# Altium integrated library Altera APEX 20KE.IntLib: 235 symbols (part 14 of 49)
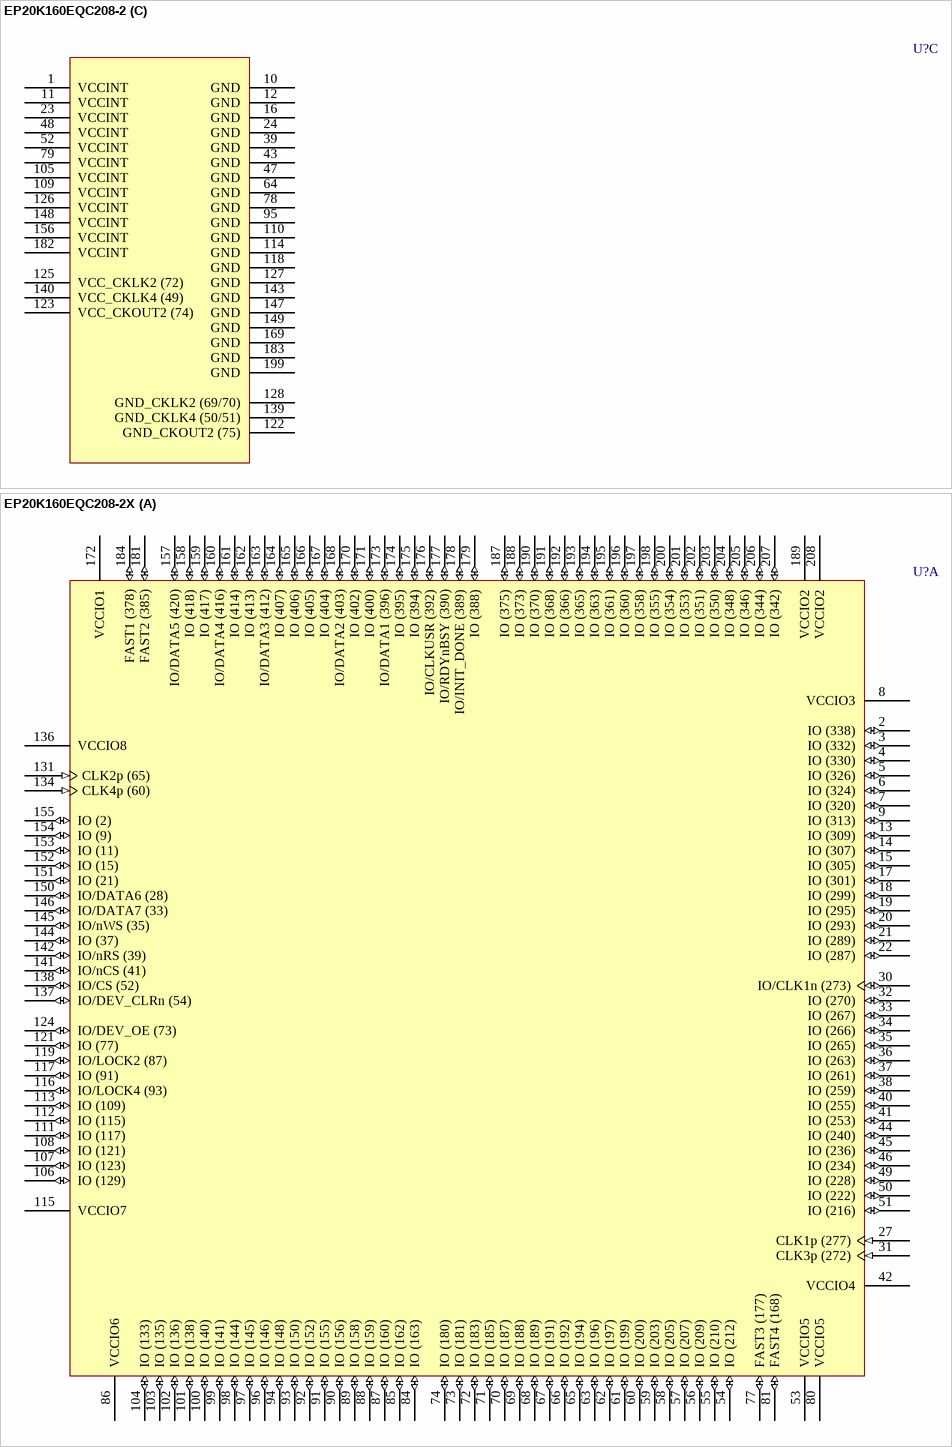
[diagram p412: symbols EP20K160EQC208-2 to EP20K160EQC208-2X]

## EP20K160EQC208-2
designator U?
APEX 20K160E PLD, 208-Pin PQFP, Commercial Grade, Speed Grade 2; Published: 17-Jul-2002; LatestRevisionDate: 13-Apr-2006; LatestRevisionNote: IPC-7351 Footprint Added.; DatasheetVersion: Mar-2004; PackageVersion: ver15.4, Dec-2008; PackageReference: PQFP208; Publisher: Altium Limited; PackageDescription: 208-Pin Plastic Quad Flat Pack (PQFP208) - Wire Bond; Code_JEDEC: MS-029-FA-1; ComponentLink1Description: Manufacturer Link; ComponentLink1URL: http://www.altera.com/products/devices/apex/apx-index.html; ComponentLink2Description: Datasheet; ComponentLink2URL: http://www.altera.com/literature/ds/apex.pdf
footprint PQFP208_N (Shrink QFP, 208-Leads, Body 28x28mm, Pitch 0.5mm, IPC Medium Density)
footprint PQFP208_L (Shrink QFP, 208-Leads, Body 28x28mm, Pitch 0.5mm, IPC High Density)
footprint PQFP208_M (Shrink QFP, 208-Leads, Body 28x28mm, Pitch 0.5mm, IPC Low Density)
3D model EP20K160E-PQFP208 (208-Pin Plastic Quad Flat Pack (PQFP208) - Wire Bond)
part A pins: 2 IO (338) (io), 3 IO (332) (io), 4 IO (330) (io), 5 IO (326) (io), 6 IO (324) (io), 7 IO (320) (io), 8 VCCIO3 (power), 9 IO (313) (io), 13 IO (309) (io), 14 IO (307) (io), 15 IO (305) (io), 17 IO (301) (io), 18 IO (299) (io), 19 IO (295) (io), 20 IO (293) (io), 21 IO (289) (io), 22 IO (287) (io), 27 CLK1p (277) (in), 30 IO/CLK1n (273) (io), 31 CLK3p (272) (in), 32 IO (270) (io), 33 IO (267) (io), 34 IO (266) (io), 35 IO (265) (io), 36 IO (263) (io), 37 IO (261) (io), 38 IO (259) (io), 40 IO (255) (io), 41 IO (253) (io), 42 VCCIO4 (power), 44 IO (240) (io), 45 IO (236) (io), 46 IO (234) (io), 49 IO (228) (io), 50 IO (222) (io), 51 IO (216) (io), 53 VCCIO5 (power), 54 IO (212) (io), 55 IO (210) (io), 56 IO (209) (io), 57 IO (207) (io), 58 IO (205) (io), 59 IO (203) (io), 60 IO (200) (io), 61 IO (199) (io), 62 IO (197) (io), 63 IO (196) (io), 65 IO (194) (io), 66 IO (192) (io), 67 IO (191) (io), 68 IO (189) (io), 69 IO (188) (io), 70 IO (187) (io), 71 IO (185) (io), 72 IO (183) (io), 73 IO (181) (io), 74 IO (180) (io), 77 FAST3 (177) (io), 80 VCCIO5 (power), 81 FAST4 (168) (io), 84 IO (163) (io), 85 IO (162) (io), 86 VCCIO6 (power), 87 IO (160) (io), 88 IO (159) (io), 89 IO (158) (io), 90 IO (156) (io), 91 IO (155) (io), 92 IO (152) (io), 93 IO (150) (io), 94 IO (148) (io), 96 IO (146) (io), 97 IO (145) (io), 98 IO (144) (io), 99 IO (141) (io), 100 IO (140) (io), 101 IO (138) (io), 102 IO (136) (io), 103 IO (135) (io), 104 IO (133) (io), 106 IO (129) (io), 107 IO (123) (io), 108 IO (121) (io), 111 IO (117) (io), 112 IO (115) (io), 113 IO (109) (io), 115 VCCIO7 (power), 116 IO/LOCK4 (93) (io), 117 IO (91) (io), 119 IO/LOCK2 (87) (io), 121 IO (77) (io), 124 IO/DEV_OE (73) (io), 131 CLK2p (65) (in), 134 CLK4p (60) (in), 136 VCCIO8 (power), 137 IO/DEV_CLRn (54) (io), 138 IO/CS (52) (io), 141 IO/nCS (41) (io), 142 IO/nRS (39) (io), 144 IO (37) (io), 145 IO/nWS (35) (io), 146 IO/DATA7 (33) (io), 150 IO/DATA6 (28) (io), 151 IO (21) (io), 152 IO (15) (io), 153 IO (11) (io), 154 IO (9) (io), 155 IO (2) (io), 157 IO/DATA5 (420) (io), 158 IO (418) (io), 159 IO (417) (io), 160 IO/DATA4 (416) (io), 161 IO (414) (io), 162 IO (413) (io), 163 IO/DATA3 (412) (io), 164 IO (407) (io), 165 IO (406) (io), 166 IO (405) (io), 167 IO (404) (io), 168 IO/DATA2 (403) (io), 170 IO (402) (io), 171 IO (400) (io), 172 VCCIO1 (power), 173 IO/DATA1 (396) (io), 174 IO (395) (io), 175 IO (394) (io), 176 IO/CLKUSR (392) (io), 177 IO/RDYnBSY (390) (io), 178 IO/INIT_DONE (389) (io), 179 IO (388) (io), 181 FAST2 (385) (io), 184 FAST1 (378) (io), 187 IO (375) (io), 188 IO (373) (io), 189 VCCIO2 (power), 190 IO (370) (io), 191 IO (368) (io), 192 IO (366) (io), 193 IO (365) (io), 194 IO (363) (io), 195 IO (361) (io), 196 IO (360) (io), 197 IO (358) (io), 198 IO (355) (io), 200 IO (354) (io), 201 IO (353) (io), 202 IO (351) (io), 203 IO (350) (io), 204 IO (348) (io), 205 IO (346) (io), 206 IO (344) (io), 207 IO (342) (io), 208 VCCIO2 (power)
part B pins: 25 MSEL0 (279) (in), 26 MSEL1 (278) (in), 28 CLKLK_ENA (276) (in), 29 nCONFIG (275) (in), 75 TMS (179) (in), 76 TCK (178) (in), 82 nSTATUS (167) (io), 83 CONF_DONE (166) (io), 120 CLKLK_OUT2p (79) (out), 129 TDI (67) (in), 130 nCE (66) (in), 132 DCLK (64) (in), 133 DATA0 (63) (in), 135 CLKLK_FB2p (58) (in), 180 TDO (386) (out), 185 nCEO (377) (out), 186 TRST (376) (in)
part C pins: 1 VCCINT (power), 10 GND (power), 11 VCCINT (power), 12 GND (power), 16 GND (power), 23 VCCINT (power), 24 GND (power), 39 GND (power), 43 GND (power), 47 GND (power), 48 VCCINT (power), 52 VCCINT (power), 64 GND (power), 78 GND (power), 79 VCCINT (power), 95 GND (power), 105 VCCINT (power), 109 VCCINT (power), 110 GND (power), 114 GND (power), 118 GND (power), 122 GND_CKOUT2 (75) (power), 123 VCC_CKOUT2 (74) (power), 125 VCC_CKLK2 (72) (power), 126 VCCINT (power), 127 GND (power), 128 GND_CKLK2 (69/70) (power), 139 GND_CKLK4 (50/51) (power), 140 VCC_CKLK4 (49) (power), 143 GND (power), 147 GND (power), 148 VCCINT (power), 149 GND (power), 156 VCCINT (power), 169 GND (power), 182 VCCINT (power), 183 GND (power), 199 GND (power)

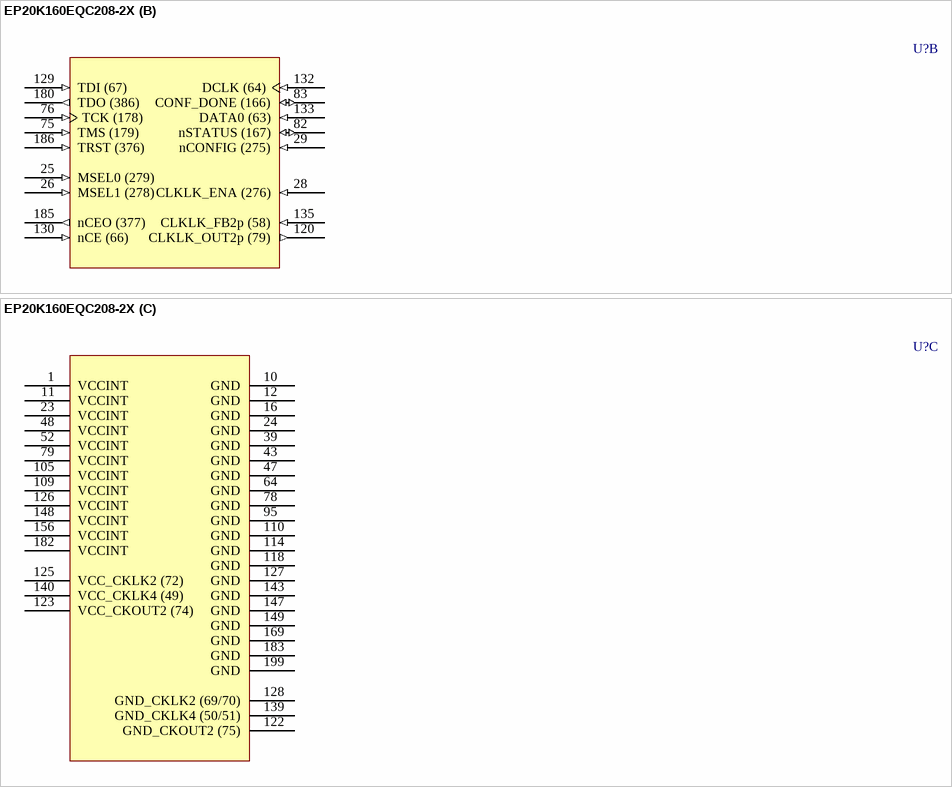
[diagram p152: symbol EP20K160EQC208-2X]

## EP20K160EQC208-2X
designator U?
APEX 20K160E PLD with PLLs and LVDS, 208-Pin PQFP, Commercial Grade, Speed Grade 2; Published: 17-Jul-2002; LatestRevisionDate: 13-Apr-2006; LatestRevisionNote: IPC-7351 Footprint Added.; DatasheetVersion: Mar-2004; PackageVersion: ver15.4, Dec-2008; PackageReference: PQFP208; Publisher: Altium Limited; PackageDescription: 208-Pin Plastic Quad Flat Pack (PQFP208) - Wire Bond; Code_JEDEC: MS-029-FA-1; ComponentLink1Description: Manufacturer Link; ComponentLink1URL: http://www.altera.com/products/devices/apex/apx-index.html; ComponentLink2Description: Datasheet; ComponentLink2URL: http://www.altera.com/literature/ds/apex.pdf
footprint PQFP208_N (Shrink QFP, 208-Leads, Body 28x28mm, Pitch 0.5mm, IPC Medium Density)
footprint PQFP208_L (Shrink QFP, 208-Leads, Body 28x28mm, Pitch 0.5mm, IPC High Density)
footprint PQFP208_M (Shrink QFP, 208-Leads, Body 28x28mm, Pitch 0.5mm, IPC Low Density)
3D model EP20K160E-PQFP208 (208-Pin Plastic Quad Flat Pack (PQFP208) - Wire Bond)
part A pins: 2 IO (338) (io), 3 IO (332) (io), 4 IO (330) (io), 5 IO (326) (io), 6 IO (324) (io), 7 IO (320) (io), 8 VCCIO3 (power), 9 IO (313) (io), 13 IO (309) (io), 14 IO (307) (io), 15 IO (305) (io), 17 IO (301) (io), 18 IO (299) (io), 19 IO (295) (io), 20 IO (293) (io), 21 IO (289) (io), 22 IO (287) (io), 27 CLK1p (277) (in), 30 IO/CLK1n (273) (io), 31 CLK3p (272) (in), 32 IO (270) (io), 33 IO (267) (io), 34 IO (266) (io), 35 IO (265) (io), 36 IO (263) (io), 37 IO (261) (io), 38 IO (259) (io), 40 IO (255) (io), 41 IO (253) (io), 42 VCCIO4 (power), 44 IO (240) (io), 45 IO (236) (io), 46 IO (234) (io), 49 IO (228) (io), 50 IO (222) (io), 51 IO (216) (io), 53 VCCIO5 (power), 54 IO (212) (io), 55 IO (210) (io), 56 IO (209) (io), 57 IO (207) (io), 58 IO (205) (io), 59 IO (203) (io), 60 IO (200) (io), 61 IO (199) (io), 62 IO (197) (io), 63 IO (196) (io), 65 IO (194) (io), 66 IO (192) (io), 67 IO (191) (io), 68 IO (189) (io), 69 IO (188) (io), 70 IO (187) (io), 71 IO (185) (io), 72 IO (183) (io), 73 IO (181) (io), 74 IO (180) (io), 77 FAST3 (177) (io), 80 VCCIO5 (power), 81 FAST4 (168) (io), 84 IO (163) (io), 85 IO (162) (io), 86 VCCIO6 (power), 87 IO (160) (io), 88 IO (159) (io), 89 IO (158) (io), 90 IO (156) (io), 91 IO (155) (io), 92 IO (152) (io), 93 IO (150) (io), 94 IO (148) (io), 96 IO (146) (io), 97 IO (145) (io), 98 IO (144) (io), 99 IO (141) (io), 100 IO (140) (io), 101 IO (138) (io), 102 IO (136) (io), 103 IO (135) (io), 104 IO (133) (io), 106 IO (129) (io), 107 IO (123) (io), 108 IO (121) (io), 111 IO (117) (io), 112 IO (115) (io), 113 IO (109) (io), 115 VCCIO7 (power), 116 IO/LOCK4 (93) (io), 117 IO (91) (io), 119 IO/LOCK2 (87) (io), 121 IO (77) (io), 124 IO/DEV_OE (73) (io), 131 CLK2p (65) (in), 134 CLK4p (60) (in), 136 VCCIO8 (power), 137 IO/DEV_CLRn (54) (io), 138 IO/CS (52) (io), 141 IO/nCS (41) (io), 142 IO/nRS (39) (io), 144 IO (37) (io), 145 IO/nWS (35) (io), 146 IO/DATA7 (33) (io), 150 IO/DATA6 (28) (io), 151 IO (21) (io), 152 IO (15) (io), 153 IO (11) (io), 154 IO (9) (io), 155 IO (2) (io), 157 IO/DATA5 (420) (io), 158 IO (418) (io), 159 IO (417) (io), 160 IO/DATA4 (416) (io), 161 IO (414) (io), 162 IO (413) (io), 163 IO/DATA3 (412) (io), 164 IO (407) (io), 165 IO (406) (io), 166 IO (405) (io), 167 IO (404) (io), 168 IO/DATA2 (403) (io), 170 IO (402) (io), 171 IO (400) (io), 172 VCCIO1 (power), 173 IO/DATA1 (396) (io), 174 IO (395) (io), 175 IO (394) (io), 176 IO/CLKUSR (392) (io), 177 IO/RDYnBSY (390) (io), 178 IO/INIT_DONE (389) (io), 179 IO (388) (io), 181 FAST2 (385) (io), 184 FAST1 (378) (io), 187 IO (375) (io), 188 IO (373) (io), 189 VCCIO2 (power), 190 IO (370) (io), 191 IO (368) (io), 192 IO (366) (io), 193 IO (365) (io), 194 IO (363) (io), 195 IO (361) (io), 196 IO (360) (io), 197 IO (358) (io), 198 IO (355) (io), 200 IO (354) (io), 201 IO (353) (io), 202 IO (351) (io), 203 IO (350) (io), 204 IO (348) (io), 205 IO (346) (io), 206 IO (344) (io), 207 IO (342) (io), 208 VCCIO2 (power)
part B pins: 25 MSEL0 (279) (in), 26 MSEL1 (278) (in), 28 CLKLK_ENA (276) (in), 29 nCONFIG (275) (in), 75 TMS (179) (in), 76 TCK (178) (in), 82 nSTATUS (167) (io), 83 CONF_DONE (166) (io), 120 CLKLK_OUT2p (79) (out), 129 TDI (67) (in), 130 nCE (66) (in), 132 DCLK (64) (in), 133 DATA0 (63) (in), 135 CLKLK_FB2p (58) (in), 180 TDO (386) (out), 185 nCEO (377) (out), 186 TRST (376) (in)
part C pins: 1 VCCINT (power), 10 GND (power), 11 VCCINT (power), 12 GND (power), 16 GND (power), 23 VCCINT (power), 24 GND (power), 39 GND (power), 43 GND (power), 47 GND (power), 48 VCCINT (power), 52 VCCINT (power), 64 GND (power), 78 GND (power), 79 VCCINT (power), 95 GND (power), 105 VCCINT (power), 109 VCCINT (power), 110 GND (power), 114 GND (power), 118 GND (power), 122 GND_CKOUT2 (75) (power), 123 VCC_CKOUT2 (74) (power), 125 VCC_CKLK2 (72) (power), 126 VCCINT (power), 127 GND (power), 128 GND_CKLK2 (69/70) (power), 139 GND_CKLK4 (50/51) (power), 140 VCC_CKLK4 (49) (power), 143 GND (power), 147 GND (power), 148 VCCINT (power), 149 GND (power), 156 VCCINT (power), 169 GND (power), 182 VCCINT (power), 183 GND (power), 199 GND (power)

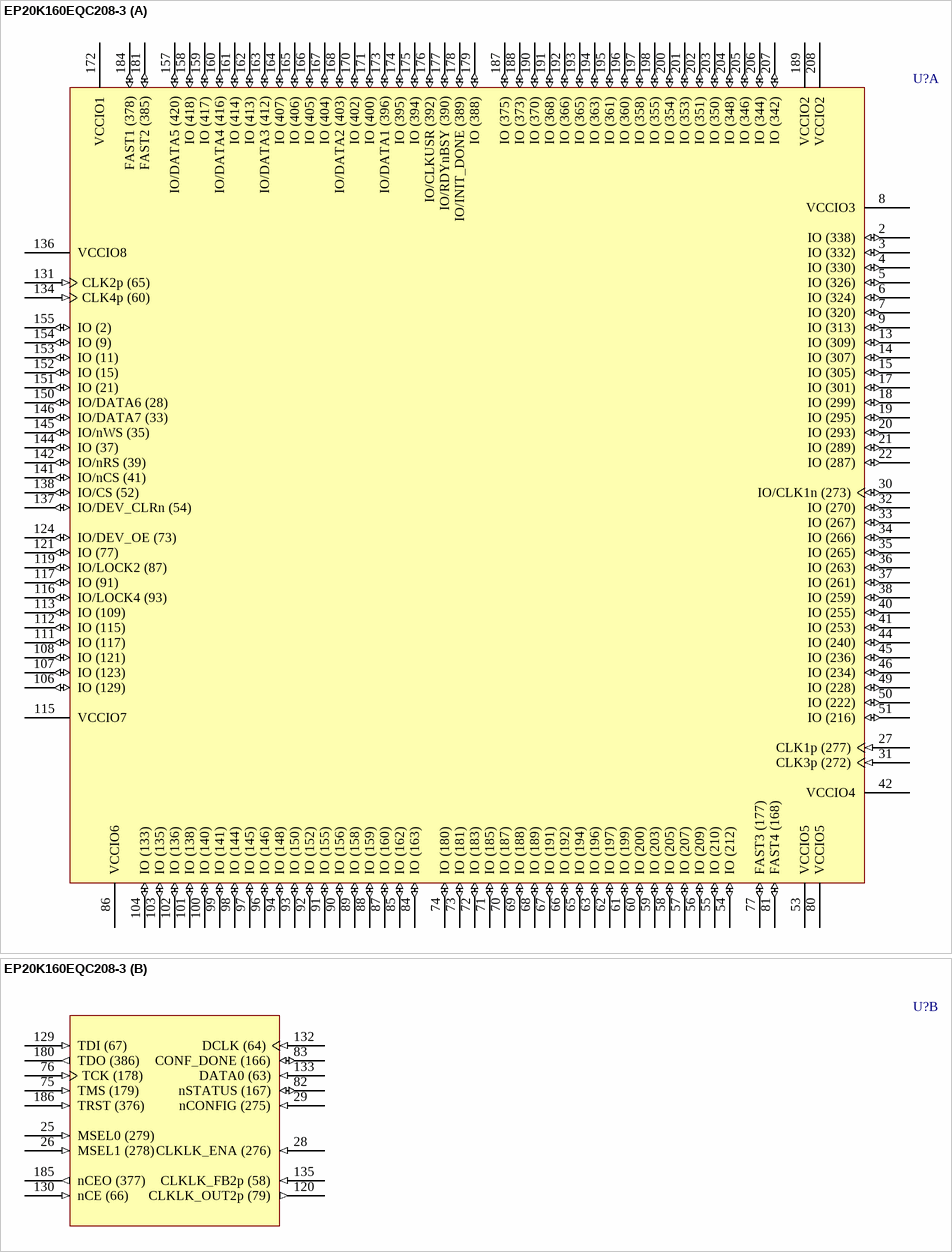
[diagram p153: symbol EP20K160EQC208-3]

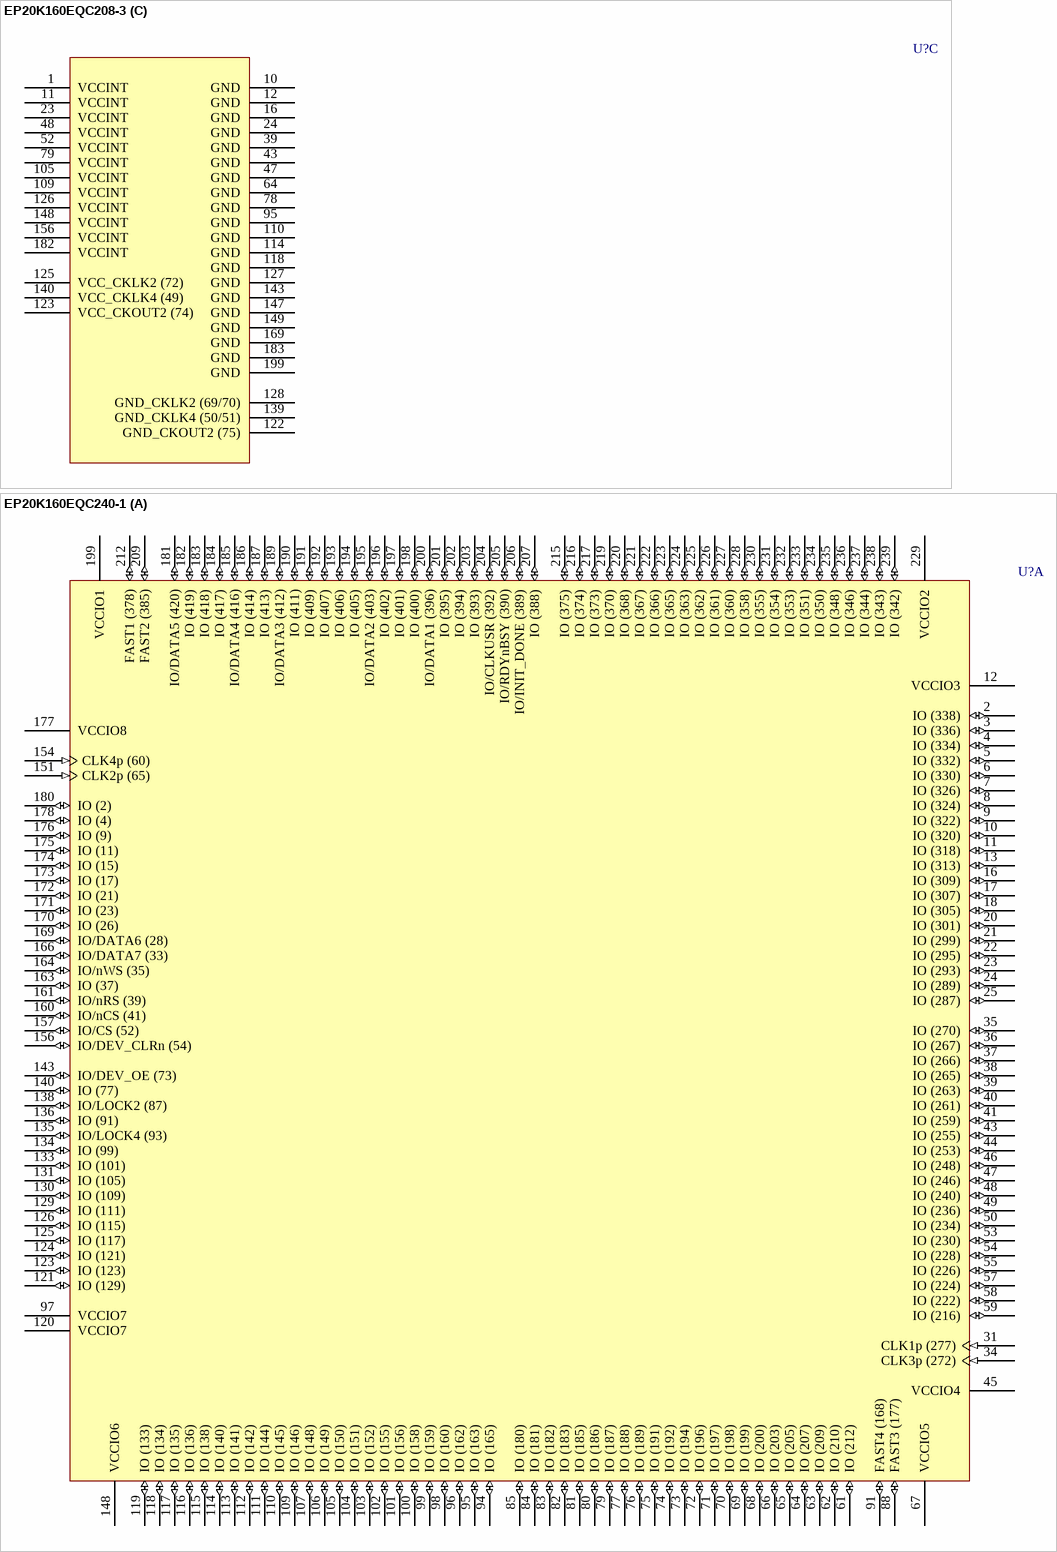
[diagram p154: symbols EP20K160EQC208-3 to EP20K160EQC240-1]

## EP20K160EQC208-3
designator U?
APEX 20K160E PLD, 208-Pin PQFP, Commercial Grade, Speed Grade 3; Published: 17-Jul-2002; LatestRevisionDate: 13-Apr-2006; LatestRevisionNote: IPC-7351 Footprint Added.; DatasheetVersion: Mar-2004; PackageVersion: ver15.4, Dec-2008; PackageReference: PQFP208; Publisher: Altium Limited; PackageDescription: 208-Pin Plastic Quad Flat Pack (PQFP208) - Wire Bond; Code_JEDEC: MS-029-FA-1; ComponentLink1Description: Manufacturer Link; ComponentLink1URL: http://www.altera.com/products/devices/apex/apx-index.html; ComponentLink2Description: Datasheet; ComponentLink2URL: http://www.altera.com/literature/ds/apex.pdf
footprint PQFP208_N (Shrink QFP, 208-Leads, Body 28x28mm, Pitch 0.5mm, IPC Medium Density)
footprint PQFP208_L (Shrink QFP, 208-Leads, Body 28x28mm, Pitch 0.5mm, IPC High Density)
footprint PQFP208_M (Shrink QFP, 208-Leads, Body 28x28mm, Pitch 0.5mm, IPC Low Density)
3D model EP20K160E-PQFP208 (208-Pin Plastic Quad Flat Pack (PQFP208) - Wire Bond)
part A pins: 2 IO (338) (io), 3 IO (332) (io), 4 IO (330) (io), 5 IO (326) (io), 6 IO (324) (io), 7 IO (320) (io), 8 VCCIO3 (power), 9 IO (313) (io), 13 IO (309) (io), 14 IO (307) (io), 15 IO (305) (io), 17 IO (301) (io), 18 IO (299) (io), 19 IO (295) (io), 20 IO (293) (io), 21 IO (289) (io), 22 IO (287) (io), 27 CLK1p (277) (in), 30 IO/CLK1n (273) (io), 31 CLK3p (272) (in), 32 IO (270) (io), 33 IO (267) (io), 34 IO (266) (io), 35 IO (265) (io), 36 IO (263) (io), 37 IO (261) (io), 38 IO (259) (io), 40 IO (255) (io), 41 IO (253) (io), 42 VCCIO4 (power), 44 IO (240) (io), 45 IO (236) (io), 46 IO (234) (io), 49 IO (228) (io), 50 IO (222) (io), 51 IO (216) (io), 53 VCCIO5 (power), 54 IO (212) (io), 55 IO (210) (io), 56 IO (209) (io), 57 IO (207) (io), 58 IO (205) (io), 59 IO (203) (io), 60 IO (200) (io), 61 IO (199) (io), 62 IO (197) (io), 63 IO (196) (io), 65 IO (194) (io), 66 IO (192) (io), 67 IO (191) (io), 68 IO (189) (io), 69 IO (188) (io), 70 IO (187) (io), 71 IO (185) (io), 72 IO (183) (io), 73 IO (181) (io), 74 IO (180) (io), 77 FAST3 (177) (io), 80 VCCIO5 (power), 81 FAST4 (168) (io), 84 IO (163) (io), 85 IO (162) (io), 86 VCCIO6 (power), 87 IO (160) (io), 88 IO (159) (io), 89 IO (158) (io), 90 IO (156) (io), 91 IO (155) (io), 92 IO (152) (io), 93 IO (150) (io), 94 IO (148) (io), 96 IO (146) (io), 97 IO (145) (io), 98 IO (144) (io), 99 IO (141) (io), 100 IO (140) (io), 101 IO (138) (io), 102 IO (136) (io), 103 IO (135) (io), 104 IO (133) (io), 106 IO (129) (io), 107 IO (123) (io), 108 IO (121) (io), 111 IO (117) (io), 112 IO (115) (io), 113 IO (109) (io), 115 VCCIO7 (power), 116 IO/LOCK4 (93) (io), 117 IO (91) (io), 119 IO/LOCK2 (87) (io), 121 IO (77) (io), 124 IO/DEV_OE (73) (io), 131 CLK2p (65) (in), 134 CLK4p (60) (in), 136 VCCIO8 (power), 137 IO/DEV_CLRn (54) (io), 138 IO/CS (52) (io), 141 IO/nCS (41) (io), 142 IO/nRS (39) (io), 144 IO (37) (io), 145 IO/nWS (35) (io), 146 IO/DATA7 (33) (io), 150 IO/DATA6 (28) (io), 151 IO (21) (io), 152 IO (15) (io), 153 IO (11) (io), 154 IO (9) (io), 155 IO (2) (io), 157 IO/DATA5 (420) (io), 158 IO (418) (io), 159 IO (417) (io), 160 IO/DATA4 (416) (io), 161 IO (414) (io), 162 IO (413) (io), 163 IO/DATA3 (412) (io), 164 IO (407) (io), 165 IO (406) (io), 166 IO (405) (io), 167 IO (404) (io), 168 IO/DATA2 (403) (io), 170 IO (402) (io), 171 IO (400) (io), 172 VCCIO1 (power), 173 IO/DATA1 (396) (io), 174 IO (395) (io), 175 IO (394) (io), 176 IO/CLKUSR (392) (io), 177 IO/RDYnBSY (390) (io), 178 IO/INIT_DONE (389) (io), 179 IO (388) (io), 181 FAST2 (385) (io), 184 FAST1 (378) (io), 187 IO (375) (io), 188 IO (373) (io), 189 VCCIO2 (power), 190 IO (370) (io), 191 IO (368) (io), 192 IO (366) (io), 193 IO (365) (io), 194 IO (363) (io), 195 IO (361) (io), 196 IO (360) (io), 197 IO (358) (io), 198 IO (355) (io), 200 IO (354) (io), 201 IO (353) (io), 202 IO (351) (io), 203 IO (350) (io), 204 IO (348) (io), 205 IO (346) (io), 206 IO (344) (io), 207 IO (342) (io), 208 VCCIO2 (power)
part B pins: 25 MSEL0 (279) (in), 26 MSEL1 (278) (in), 28 CLKLK_ENA (276) (in), 29 nCONFIG (275) (in), 75 TMS (179) (in), 76 TCK (178) (in), 82 nSTATUS (167) (io), 83 CONF_DONE (166) (io), 120 CLKLK_OUT2p (79) (out), 129 TDI (67) (in), 130 nCE (66) (in), 132 DCLK (64) (in), 133 DATA0 (63) (in), 135 CLKLK_FB2p (58) (in), 180 TDO (386) (out), 185 nCEO (377) (out), 186 TRST (376) (in)
part C pins: 1 VCCINT (power), 10 GND (power), 11 VCCINT (power), 12 GND (power), 16 GND (power), 23 VCCINT (power), 24 GND (power), 39 GND (power), 43 GND (power), 47 GND (power), 48 VCCINT (power), 52 VCCINT (power), 64 GND (power), 78 GND (power), 79 VCCINT (power), 95 GND (power), 105 VCCINT (power), 109 VCCINT (power), 110 GND (power), 114 GND (power), 118 GND (power), 122 GND_CKOUT2 (75) (power), 123 VCC_CKOUT2 (74) (power), 125 VCC_CKLK2 (72) (power), 126 VCCINT (power), 127 GND (power), 128 GND_CKLK2 (69/70) (power), 139 GND_CKLK4 (50/51) (power), 140 VCC_CKLK4 (49) (power), 143 GND (power), 147 GND (power), 148 VCCINT (power), 149 GND (power), 156 VCCINT (power), 169 GND (power), 182 VCCINT (power), 183 GND (power), 199 GND (power)

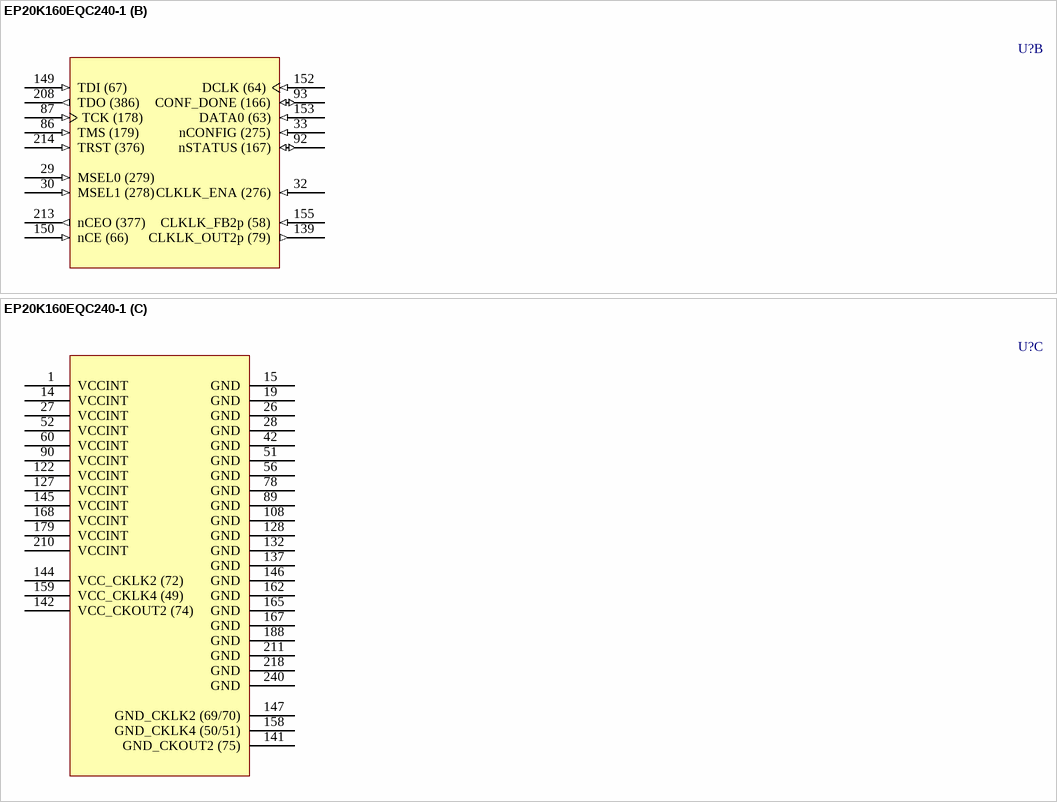
[diagram p155: symbol EP20K160EQC240-1]

## EP20K160EQC240-1
designator U?
APEX 20K160E PLD, 240-Pin PQFP, Commercial Grade, Speed Grade 1; Published: 17-Jul-2002; LatestRevisionDate: 13-Apr-2006; LatestRevisionNote: IPC-7351 Footprint Added.; DatasheetVersion: Mar-2004; PackageVersion: ver15.4, Dec-2008; PackageReference: PQFP240; Publisher: Altium Limited; PackageDescription: 240-Pin Plastic Quad Flat Pack (PQFP240) - Wire Bond; Code_JEDEC: MS-029-GA; ComponentLink1Description: Manufacturer Link; ComponentLink1URL: http://www.altera.com/products/devices/apex/apx-index.html; ComponentLink2Description: Datasheet; ComponentLink2URL: http://www.altera.com/literature/ds/apex.pdf
footprint PQFP240_N (Shrink QFP, 240-Leads, Body 32x32mm, Pitch 0.5mm, IPC Medium Density)
footprint PQFP240_L (Shrink QFP, 240-Leads, Body 32x32mm, Pitch 0.5mm, IPC High Density)
footprint PQFP240_M (Shrink QFP, 240-Leads, Body 32x32mm, Pitch 0.5mm, IPC Low Density)
3D model EP20K160E-PQFP240 (240-Pin Plastic Quad Flat Pack (PQFP240) - Wire Bond)
part A pins: 2 IO (338) (io), 3 IO (336) (io), 4 IO (334) (io), 5 IO (332) (io), 6 IO (330) (io), 7 IO (326) (io), 8 IO (324) (io), 9 IO (322) (io), 10 IO (320) (io), 11 IO (318) (io), 12 VCCIO3 (power), 13 IO (313) (io), 16 IO (309) (io), 17 IO (307) (io), 18 IO (305) (io), 20 IO (301) (io), 21 IO (299) (io), 22 IO (295) (io), 23 IO (293) (io), 24 IO (289) (io), 25 IO (287) (io), 31 CLK1p (277) (in), 34 CLK3p (272) (in), 35 IO (270) (io), 36 IO (267) (io), 37 IO (266) (io), 38 IO (265) (io), 39 IO (263) (io), 40 IO (261) (io), 41 IO (259) (io), 43 IO (255) (io), 44 IO (253) (io), 45 VCCIO4 (power), 46 IO (248) (io), 47 IO (246) (io), 48 IO (240) (io), 49 IO (236) (io), 50 IO (234) (io), 53 IO (230) (io), 54 IO (228) (io), 55 IO (226) (io), 57 IO (224) (io), 58 IO (222) (io), 59 IO (216) (io), 61 IO (212) (io), 62 IO (210) (io), 63 IO (209) (io), 64 IO (207) (io), 65 IO (205) (io), 66 IO (203) (io), 67 VCCIO5 (power), 68 IO (200) (io), 69 IO (199) (io), 70 IO (198) (io), 71 IO (197) (io), 72 IO (196) (io), 73 IO (194) (io), 74 IO (192) (io), 75 IO (191) (io), 76 IO (189) (io), 77 IO (188) (io), 79 IO (187) (io), 80 IO (186) (io), 81 IO (185) (io), 82 IO (183) (io), 83 IO (182) (io), 84 IO (181) (io), 85 IO (180) (io), 88 FAST3 (177) (io), 91 FAST4 (168) (io), 94 IO (165) (io), 95 IO (163) (io), 96 IO (162) (io), 97 VCCIO7 (power), 98 IO (160) (io), 99 IO (159) (io), 100 IO (158) (io), 101 IO (156) (io), 102 IO (155) (io), 103 IO (152) (io), 104 IO (151) (io), 105 IO (150) (io), 106 IO (149) (io), 107 IO (148) (io), 109 IO (146) (io), 110 IO (145) (io), 111 IO (144) (io), 112 IO (142) (io), 113 IO (141) (io), 114 IO (140) (io), 115 IO (138) (io), 116 IO (136) (io), 117 IO (135) (io), 118 IO (134) (io), 119 IO (133) (io), 120 VCCIO7 (power), 121 IO (129) (io), 123 IO (123) (io), 124 IO (121) (io), 125 IO (117) (io), 126 IO (115) (io), 129 IO (111) (io), 130 IO (109) (io), 131 IO (105) (io), 133 IO (101) (io), 134 IO (99) (io), 135 IO/LOCK4 (93) (io), 136 IO (91) (io), 138 IO/LOCK2 (87) (io), 140 IO (77) (io), 143 IO/DEV_OE (73) (io), 148 VCCIO6 (power), 151 CLK2p (65) (in), 154 CLK4p (60) (in), 156 IO/DEV_CLRn (54) (io), 157 IO/CS (52) (io), 160 IO/nCS (41) (io), 161 IO/nRS (39) (io), 163 IO (37) (io), 164 IO/nWS (35) (io), 166 IO/DATA7 (33) (io), 169 IO/DATA6 (28) (io), 170 IO (26) (io), 171 IO (23) (io), 172 IO (21) (io), 173 IO (17) (io), 174 IO (15) (io), 175 IO (11) (io), 176 IO (9) (io), 177 VCCIO8 (power), 178 IO (4) (io), 180 IO (2) (io), 181 IO/DATA5 (420) (io), 182 IO (419) (io), 183 IO (418) (io), 184 IO (417) (io), 185 IO/DATA4 (416) (io), 186 IO (414) (io), 187 IO (413) (io), 189 IO/DATA3 (412) (io), 190 IO (411) (io), 191 IO (409) (io), 192 IO (407) (io), 193 IO (406) (io), 194 IO (405) (io), 195 IO/DATA2 (403) (io), 196 IO (402) (io), 197 IO (401) (io), 198 IO (400) (io), 199 VCCIO1 (power), 200 IO/DATA1 (396) (io), 201 IO (395) (io), 202 IO (394) (io), 203 IO (393) (io), 204 IO/CLKUSR (392) (io), 205 IO/RDYnBSY (390) (io), 206 IO/INIT_DONE (389) (io), 207 IO (388) (io), 209 FAST2 (385) (io), 212 FAST1 (378) (io), 215 IO (375) (io), 216 IO (374) (io), 217 IO (373) (io), 219 IO (370) (io), 220 IO (368) (io), 221 IO (367) (io), 222 IO (366) (io), 223 IO (365) (io), 224 IO (363) (io), 225 IO (362) (io), 226 IO (361) (io), 227 IO (360) (io), 228 IO (358) (io), 229 VCCIO2 (power), 230 IO (355) (io), 231 IO (354) (io), 232 IO (353) (io), 233 IO (351) (io), 234 IO (350) (io), 235 IO (348) (io), 236 IO (346) (io), 237 IO (344) (io), 238 IO (343) (io), 239 IO (342) (io)
part B pins: 29 MSEL0 (279) (in), 30 MSEL1 (278) (in), 32 CLKLK_ENA (276) (in), 33 nCONFIG (275) (in), 86 TMS (179) (in), 87 TCK (178) (in), 92 nSTATUS (167) (io), 93 CONF_DONE (166) (io), 139 CLKLK_OUT2p (79) (out), 149 TDI (67) (in), 150 nCE (66) (in), 152 DCLK (64) (in), 153 DATA0 (63) (in), 155 CLKLK_FB2p (58) (in), 208 TDO (386) (out), 213 nCEO (377) (out), 214 TRST (376) (in)
part C pins: 1 VCCINT (power), 14 VCCINT (power), 15 GND (power), 19 GND (power), 26 GND (power), 27 VCCINT (power), 28 GND (power), 42 GND (power), 51 GND (power), 52 VCCINT (power), 56 GND (power), 60 VCCINT (power), 78 GND (power), 89 GND (power), 90 VCCINT (power), 108 GND (power), 122 VCCINT (power), 127 VCCINT (power), 128 GND (power), 132 GND (power), 137 GND (power), 141 GND_CKOUT2 (75) (power), 142 VCC_CKOUT2 (74) (power), 144 VCC_CKLK2 (72) (power), 145 VCCINT (power), 146 GND (power), 147 GND_CKLK2 (69/70) (power), 158 GND_CKLK4 (50/51) (power), 159 VCC_CKLK4 (49) (power), 162 GND (power), 165 GND (power), 167 GND (power), 168 VCCINT (power), 179 VCCINT (power), 188 GND (power), 210 VCCINT (power), 211 GND (power), 218 GND (power), 240 GND (power)

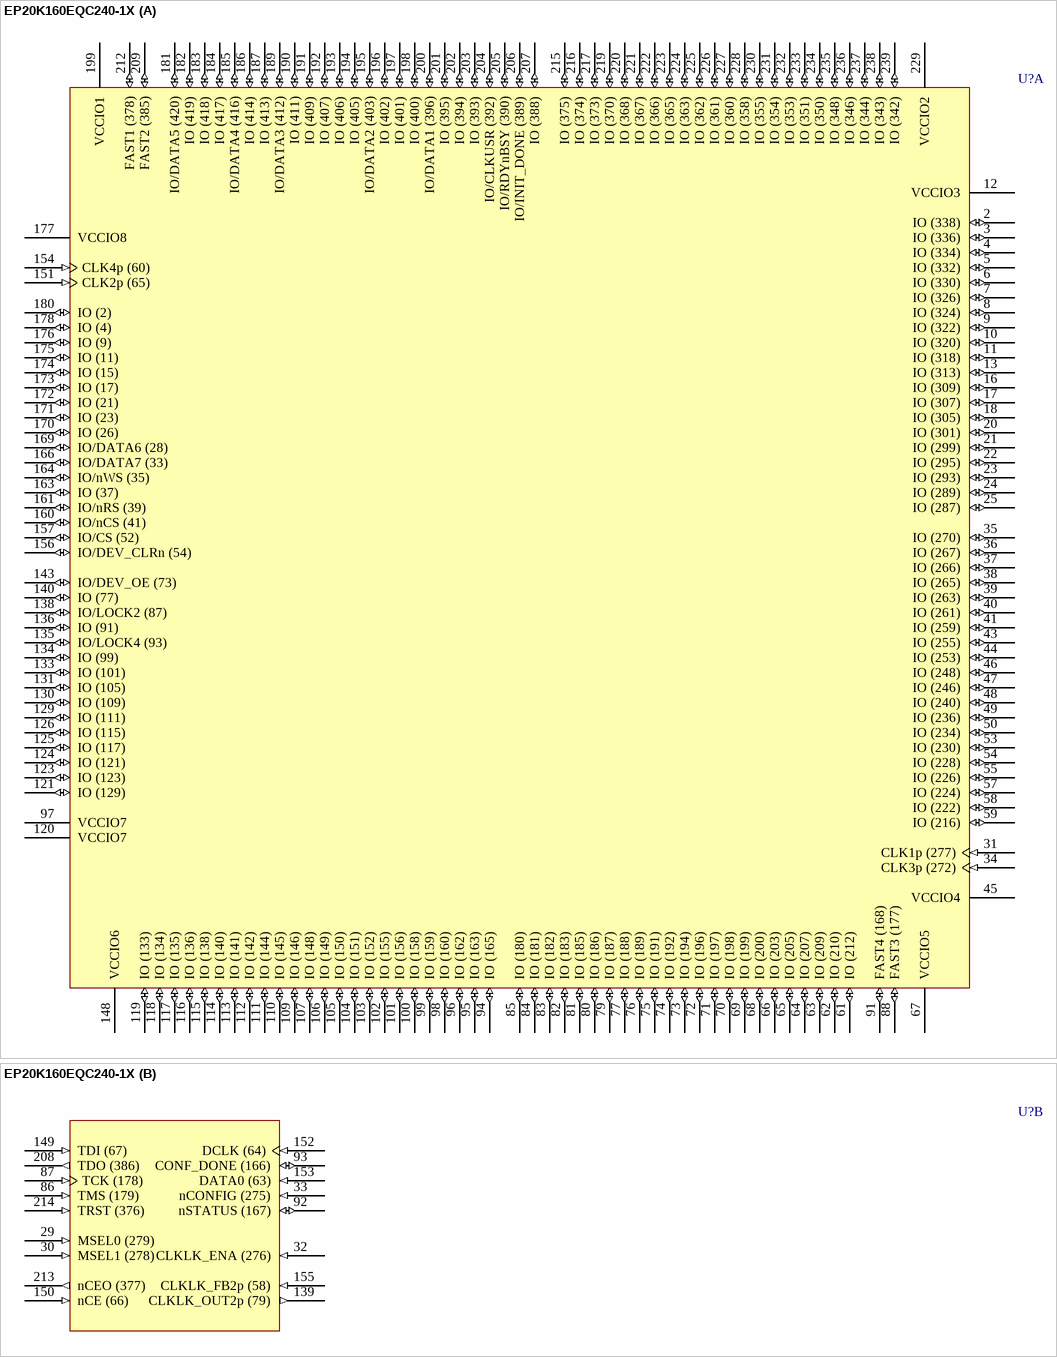
[diagram p156: symbol EP20K160EQC240-1X]

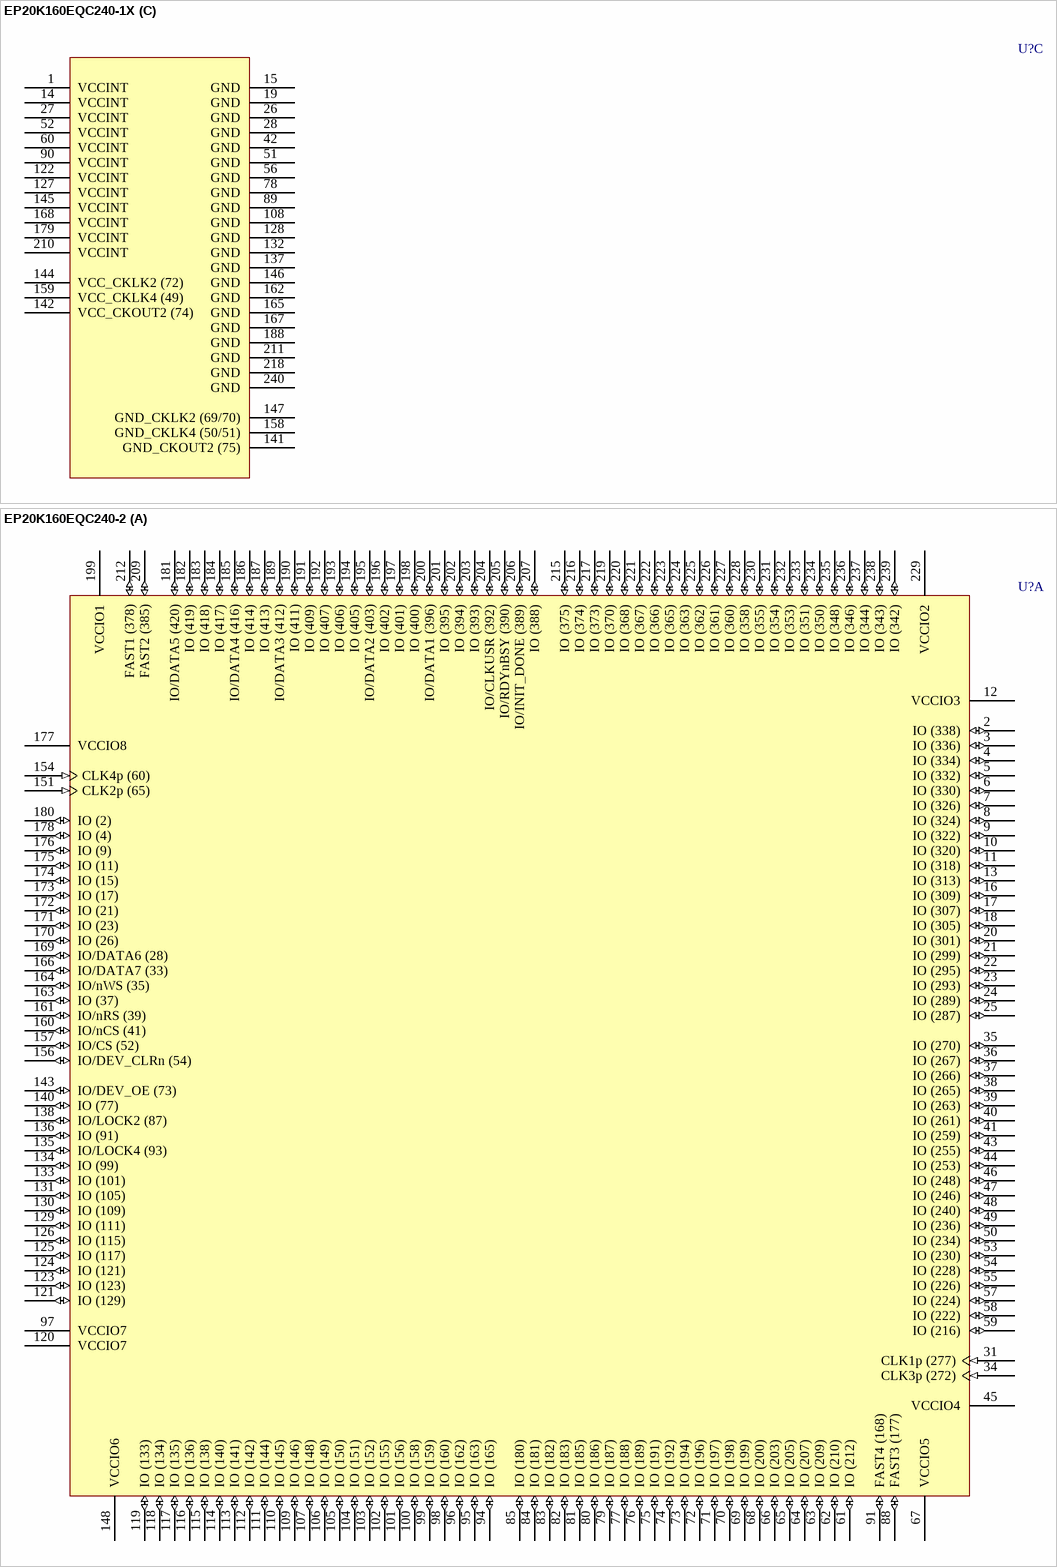
[diagram p157: symbols EP20K160EQC240-1X to EP20K160EQC240-2]

## EP20K160EQC240-1X
designator U?
APEX 20K160E PLD with PLLs and LVDS, 240-Pin PQFP, Commercial Grade, Speed Grade 1; Published: 17-Jul-2002; LatestRevisionDate: 13-Apr-2006; LatestRevisionNote: IPC-7351 Footprint Added.; DatasheetVersion: Mar-2004; PackageVersion: ver15.4, Dec-2008; PackageReference: PQFP240; Publisher: Altium Limited; PackageDescription: 240-Pin Plastic Quad Flat Pack (PQFP240) - Wire Bond; Code_JEDEC: MS-029-GA; ComponentLink1Description: Manufacturer Link; ComponentLink1URL: http://www.altera.com/products/devices/apex/apx-index.html; ComponentLink2Description: Datasheet; ComponentLink2URL: http://www.altera.com/literature/ds/apex.pdf
footprint PQFP240_N (Shrink QFP, 240-Leads, Body 32x32mm, Pitch 0.5mm, IPC Medium Density)
footprint PQFP240_L (Shrink QFP, 240-Leads, Body 32x32mm, Pitch 0.5mm, IPC High Density)
footprint PQFP240_M (Shrink QFP, 240-Leads, Body 32x32mm, Pitch 0.5mm, IPC Low Density)
3D model EP20K160E-PQFP240 (240-Pin Plastic Quad Flat Pack (PQFP240) - Wire Bond)
part A pins: 2 IO (338) (io), 3 IO (336) (io), 4 IO (334) (io), 5 IO (332) (io), 6 IO (330) (io), 7 IO (326) (io), 8 IO (324) (io), 9 IO (322) (io), 10 IO (320) (io), 11 IO (318) (io), 12 VCCIO3 (power), 13 IO (313) (io), 16 IO (309) (io), 17 IO (307) (io), 18 IO (305) (io), 20 IO (301) (io), 21 IO (299) (io), 22 IO (295) (io), 23 IO (293) (io), 24 IO (289) (io), 25 IO (287) (io), 31 CLK1p (277) (in), 34 CLK3p (272) (in), 35 IO (270) (io), 36 IO (267) (io), 37 IO (266) (io), 38 IO (265) (io), 39 IO (263) (io), 40 IO (261) (io), 41 IO (259) (io), 43 IO (255) (io), 44 IO (253) (io), 45 VCCIO4 (power), 46 IO (248) (io), 47 IO (246) (io), 48 IO (240) (io), 49 IO (236) (io), 50 IO (234) (io), 53 IO (230) (io), 54 IO (228) (io), 55 IO (226) (io), 57 IO (224) (io), 58 IO (222) (io), 59 IO (216) (io), 61 IO (212) (io), 62 IO (210) (io), 63 IO (209) (io), 64 IO (207) (io), 65 IO (205) (io), 66 IO (203) (io), 67 VCCIO5 (power), 68 IO (200) (io), 69 IO (199) (io), 70 IO (198) (io), 71 IO (197) (io), 72 IO (196) (io), 73 IO (194) (io), 74 IO (192) (io), 75 IO (191) (io), 76 IO (189) (io), 77 IO (188) (io), 79 IO (187) (io), 80 IO (186) (io), 81 IO (185) (io), 82 IO (183) (io), 83 IO (182) (io), 84 IO (181) (io), 85 IO (180) (io), 88 FAST3 (177) (io), 91 FAST4 (168) (io), 94 IO (165) (io), 95 IO (163) (io), 96 IO (162) (io), 97 VCCIO7 (power), 98 IO (160) (io), 99 IO (159) (io), 100 IO (158) (io), 101 IO (156) (io), 102 IO (155) (io), 103 IO (152) (io), 104 IO (151) (io), 105 IO (150) (io), 106 IO (149) (io), 107 IO (148) (io), 109 IO (146) (io), 110 IO (145) (io), 111 IO (144) (io), 112 IO (142) (io), 113 IO (141) (io), 114 IO (140) (io), 115 IO (138) (io), 116 IO (136) (io), 117 IO (135) (io), 118 IO (134) (io), 119 IO (133) (io), 120 VCCIO7 (power), 121 IO (129) (io), 123 IO (123) (io), 124 IO (121) (io), 125 IO (117) (io), 126 IO (115) (io), 129 IO (111) (io), 130 IO (109) (io), 131 IO (105) (io), 133 IO (101) (io), 134 IO (99) (io), 135 IO/LOCK4 (93) (io), 136 IO (91) (io), 138 IO/LOCK2 (87) (io), 140 IO (77) (io), 143 IO/DEV_OE (73) (io), 148 VCCIO6 (power), 151 CLK2p (65) (in), 154 CLK4p (60) (in), 156 IO/DEV_CLRn (54) (io), 157 IO/CS (52) (io), 160 IO/nCS (41) (io), 161 IO/nRS (39) (io), 163 IO (37) (io), 164 IO/nWS (35) (io), 166 IO/DATA7 (33) (io), 169 IO/DATA6 (28) (io), 170 IO (26) (io), 171 IO (23) (io), 172 IO (21) (io), 173 IO (17) (io), 174 IO (15) (io), 175 IO (11) (io), 176 IO (9) (io), 177 VCCIO8 (power), 178 IO (4) (io), 180 IO (2) (io), 181 IO/DATA5 (420) (io), 182 IO (419) (io), 183 IO (418) (io), 184 IO (417) (io), 185 IO/DATA4 (416) (io), 186 IO (414) (io), 187 IO (413) (io), 189 IO/DATA3 (412) (io), 190 IO (411) (io), 191 IO (409) (io), 192 IO (407) (io), 193 IO (406) (io), 194 IO (405) (io), 195 IO/DATA2 (403) (io), 196 IO (402) (io), 197 IO (401) (io), 198 IO (400) (io), 199 VCCIO1 (power), 200 IO/DATA1 (396) (io), 201 IO (395) (io), 202 IO (394) (io), 203 IO (393) (io), 204 IO/CLKUSR (392) (io), 205 IO/RDYnBSY (390) (io), 206 IO/INIT_DONE (389) (io), 207 IO (388) (io), 209 FAST2 (385) (io), 212 FAST1 (378) (io), 215 IO (375) (io), 216 IO (374) (io), 217 IO (373) (io), 219 IO (370) (io), 220 IO (368) (io), 221 IO (367) (io), 222 IO (366) (io), 223 IO (365) (io), 224 IO (363) (io), 225 IO (362) (io), 226 IO (361) (io), 227 IO (360) (io), 228 IO (358) (io), 229 VCCIO2 (power), 230 IO (355) (io), 231 IO (354) (io), 232 IO (353) (io), 233 IO (351) (io), 234 IO (350) (io), 235 IO (348) (io), 236 IO (346) (io), 237 IO (344) (io), 238 IO (343) (io), 239 IO (342) (io)
part B pins: 29 MSEL0 (279) (in), 30 MSEL1 (278) (in), 32 CLKLK_ENA (276) (in), 33 nCONFIG (275) (in), 86 TMS (179) (in), 87 TCK (178) (in), 92 nSTATUS (167) (io), 93 CONF_DONE (166) (io), 139 CLKLK_OUT2p (79) (out), 149 TDI (67) (in), 150 nCE (66) (in), 152 DCLK (64) (in), 153 DATA0 (63) (in), 155 CLKLK_FB2p (58) (in), 208 TDO (386) (out), 213 nCEO (377) (out), 214 TRST (376) (in)
part C pins: 1 VCCINT (power), 14 VCCINT (power), 15 GND (power), 19 GND (power), 26 GND (power), 27 VCCINT (power), 28 GND (power), 42 GND (power), 51 GND (power), 52 VCCINT (power), 56 GND (power), 60 VCCINT (power), 78 GND (power), 89 GND (power), 90 VCCINT (power), 108 GND (power), 122 VCCINT (power), 127 VCCINT (power), 128 GND (power), 132 GND (power), 137 GND (power), 141 GND_CKOUT2 (75) (power), 142 VCC_CKOUT2 (74) (power), 144 VCC_CKLK2 (72) (power), 145 VCCINT (power), 146 GND (power), 147 GND_CKLK2 (69/70) (power), 158 GND_CKLK4 (50/51) (power), 159 VCC_CKLK4 (49) (power), 162 GND (power), 165 GND (power), 167 GND (power), 168 VCCINT (power), 179 VCCINT (power), 188 GND (power), 210 VCCINT (power), 211 GND (power), 218 GND (power), 240 GND (power)

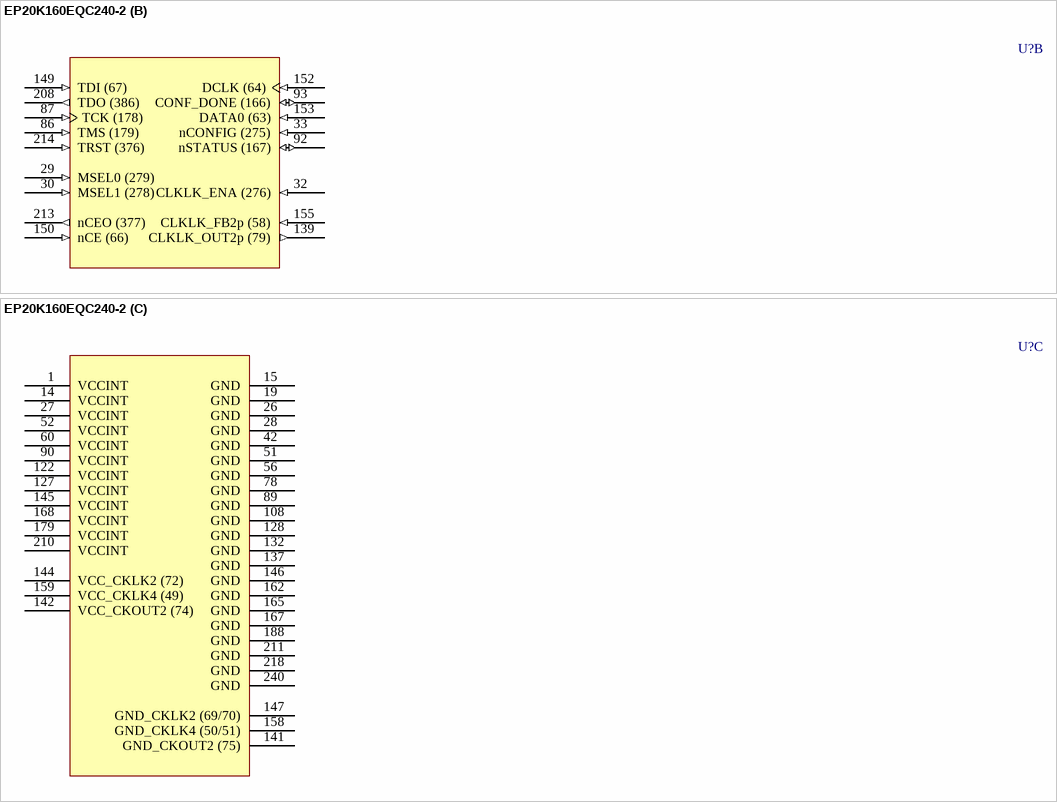
[diagram p158: symbol EP20K160EQC240-2]

## EP20K160EQC240-2
designator U?
APEX 20K160E PLD, 240-Pin PQFP, Commercial Grade, Speed Grade 2; Published: 17-Jul-2002; LatestRevisionDate: 13-Apr-2006; LatestRevisionNote: IPC-7351 Footprint Added.; DatasheetVersion: Mar-2004; PackageVersion: ver15.4, Dec-2008; PackageReference: PQFP240; Publisher: Altium Limited; PackageDescription: 240-Pin Plastic Quad Flat Pack (PQFP240) - Wire Bond; Code_JEDEC: MS-029-GA; ComponentLink1Description: Manufacturer Link; ComponentLink1URL: http://www.altera.com/products/devices/apex/apx-index.html; ComponentLink2Description: Datasheet; ComponentLink2URL: http://www.altera.com/literature/ds/apex.pdf
footprint PQFP240_N (Shrink QFP, 240-Leads, Body 32x32mm, Pitch 0.5mm, IPC Medium Density)
footprint PQFP240_L (Shrink QFP, 240-Leads, Body 32x32mm, Pitch 0.5mm, IPC High Density)
footprint PQFP240_M (Shrink QFP, 240-Leads, Body 32x32mm, Pitch 0.5mm, IPC Low Density)
3D model EP20K160E-PQFP240 (240-Pin Plastic Quad Flat Pack (PQFP240) - Wire Bond)
part A pins: 2 IO (338) (io), 3 IO (336) (io), 4 IO (334) (io), 5 IO (332) (io), 6 IO (330) (io), 7 IO (326) (io), 8 IO (324) (io), 9 IO (322) (io), 10 IO (320) (io), 11 IO (318) (io), 12 VCCIO3 (power), 13 IO (313) (io), 16 IO (309) (io), 17 IO (307) (io), 18 IO (305) (io), 20 IO (301) (io), 21 IO (299) (io), 22 IO (295) (io), 23 IO (293) (io), 24 IO (289) (io), 25 IO (287) (io), 31 CLK1p (277) (in), 34 CLK3p (272) (in), 35 IO (270) (io), 36 IO (267) (io), 37 IO (266) (io), 38 IO (265) (io), 39 IO (263) (io), 40 IO (261) (io), 41 IO (259) (io), 43 IO (255) (io), 44 IO (253) (io), 45 VCCIO4 (power), 46 IO (248) (io), 47 IO (246) (io), 48 IO (240) (io), 49 IO (236) (io), 50 IO (234) (io), 53 IO (230) (io), 54 IO (228) (io), 55 IO (226) (io), 57 IO (224) (io), 58 IO (222) (io), 59 IO (216) (io), 61 IO (212) (io), 62 IO (210) (io), 63 IO (209) (io), 64 IO (207) (io), 65 IO (205) (io), 66 IO (203) (io), 67 VCCIO5 (power), 68 IO (200) (io), 69 IO (199) (io), 70 IO (198) (io), 71 IO (197) (io), 72 IO (196) (io), 73 IO (194) (io), 74 IO (192) (io), 75 IO (191) (io), 76 IO (189) (io), 77 IO (188) (io), 79 IO (187) (io), 80 IO (186) (io), 81 IO (185) (io), 82 IO (183) (io), 83 IO (182) (io), 84 IO (181) (io), 85 IO (180) (io), 88 FAST3 (177) (io), 91 FAST4 (168) (io), 94 IO (165) (io), 95 IO (163) (io), 96 IO (162) (io), 97 VCCIO7 (power), 98 IO (160) (io), 99 IO (159) (io), 100 IO (158) (io), 101 IO (156) (io), 102 IO (155) (io), 103 IO (152) (io), 104 IO (151) (io), 105 IO (150) (io), 106 IO (149) (io), 107 IO (148) (io), 109 IO (146) (io), 110 IO (145) (io), 111 IO (144) (io), 112 IO (142) (io), 113 IO (141) (io), 114 IO (140) (io), 115 IO (138) (io), 116 IO (136) (io), 117 IO (135) (io), 118 IO (134) (io), 119 IO (133) (io), 120 VCCIO7 (power), 121 IO (129) (io), 123 IO (123) (io), 124 IO (121) (io), 125 IO (117) (io), 126 IO (115) (io), 129 IO (111) (io), 130 IO (109) (io), 131 IO (105) (io), 133 IO (101) (io), 134 IO (99) (io), 135 IO/LOCK4 (93) (io), 136 IO (91) (io), 138 IO/LOCK2 (87) (io), 140 IO (77) (io), 143 IO/DEV_OE (73) (io), 148 VCCIO6 (power), 151 CLK2p (65) (in), 154 CLK4p (60) (in), 156 IO/DEV_CLRn (54) (io), 157 IO/CS (52) (io), 160 IO/nCS (41) (io), 161 IO/nRS (39) (io), 163 IO (37) (io), 164 IO/nWS (35) (io), 166 IO/DATA7 (33) (io), 169 IO/DATA6 (28) (io), 170 IO (26) (io), 171 IO (23) (io), 172 IO (21) (io), 173 IO (17) (io), 174 IO (15) (io), 175 IO (11) (io), 176 IO (9) (io), 177 VCCIO8 (power), 178 IO (4) (io), 180 IO (2) (io), 181 IO/DATA5 (420) (io), 182 IO (419) (io), 183 IO (418) (io), 184 IO (417) (io), 185 IO/DATA4 (416) (io), 186 IO (414) (io), 187 IO (413) (io), 189 IO/DATA3 (412) (io), 190 IO (411) (io), 191 IO (409) (io), 192 IO (407) (io), 193 IO (406) (io), 194 IO (405) (io), 195 IO/DATA2 (403) (io), 196 IO (402) (io), 197 IO (401) (io), 198 IO (400) (io), 199 VCCIO1 (power), 200 IO/DATA1 (396) (io), 201 IO (395) (io), 202 IO (394) (io), 203 IO (393) (io), 204 IO/CLKUSR (392) (io), 205 IO/RDYnBSY (390) (io), 206 IO/INIT_DONE (389) (io), 207 IO (388) (io), 209 FAST2 (385) (io), 212 FAST1 (378) (io), 215 IO (375) (io), 216 IO (374) (io), 217 IO (373) (io), 219 IO (370) (io), 220 IO (368) (io), 221 IO (367) (io), 222 IO (366) (io), 223 IO (365) (io), 224 IO (363) (io), 225 IO (362) (io), 226 IO (361) (io), 227 IO (360) (io), 228 IO (358) (io), 229 VCCIO2 (power), 230 IO (355) (io), 231 IO (354) (io), 232 IO (353) (io), 233 IO (351) (io), 234 IO (350) (io), 235 IO (348) (io), 236 IO (346) (io), 237 IO (344) (io), 238 IO (343) (io), 239 IO (342) (io)
part B pins: 29 MSEL0 (279) (in), 30 MSEL1 (278) (in), 32 CLKLK_ENA (276) (in), 33 nCONFIG (275) (in), 86 TMS (179) (in), 87 TCK (178) (in), 92 nSTATUS (167) (io), 93 CONF_DONE (166) (io), 139 CLKLK_OUT2p (79) (out), 149 TDI (67) (in), 150 nCE (66) (in), 152 DCLK (64) (in), 153 DATA0 (63) (in), 155 CLKLK_FB2p (58) (in), 208 TDO (386) (out), 213 nCEO (377) (out), 214 TRST (376) (in)
part C pins: 1 VCCINT (power), 14 VCCINT (power), 15 GND (power), 19 GND (power), 26 GND (power), 27 VCCINT (power), 28 GND (power), 42 GND (power), 51 GND (power), 52 VCCINT (power), 56 GND (power), 60 VCCINT (power), 78 GND (power), 89 GND (power), 90 VCCINT (power), 108 GND (power), 122 VCCINT (power), 127 VCCINT (power), 128 GND (power), 132 GND (power), 137 GND (power), 141 GND_CKOUT2 (75) (power), 142 VCC_CKOUT2 (74) (power), 144 VCC_CKLK2 (72) (power), 145 VCCINT (power), 146 GND (power), 147 GND_CKLK2 (69/70) (power), 158 GND_CKLK4 (50/51) (power), 159 VCC_CKLK4 (49) (power), 162 GND (power), 165 GND (power), 167 GND (power), 168 VCCINT (power), 179 VCCINT (power), 188 GND (power), 210 VCCINT (power), 211 GND (power), 218 GND (power), 240 GND (power)

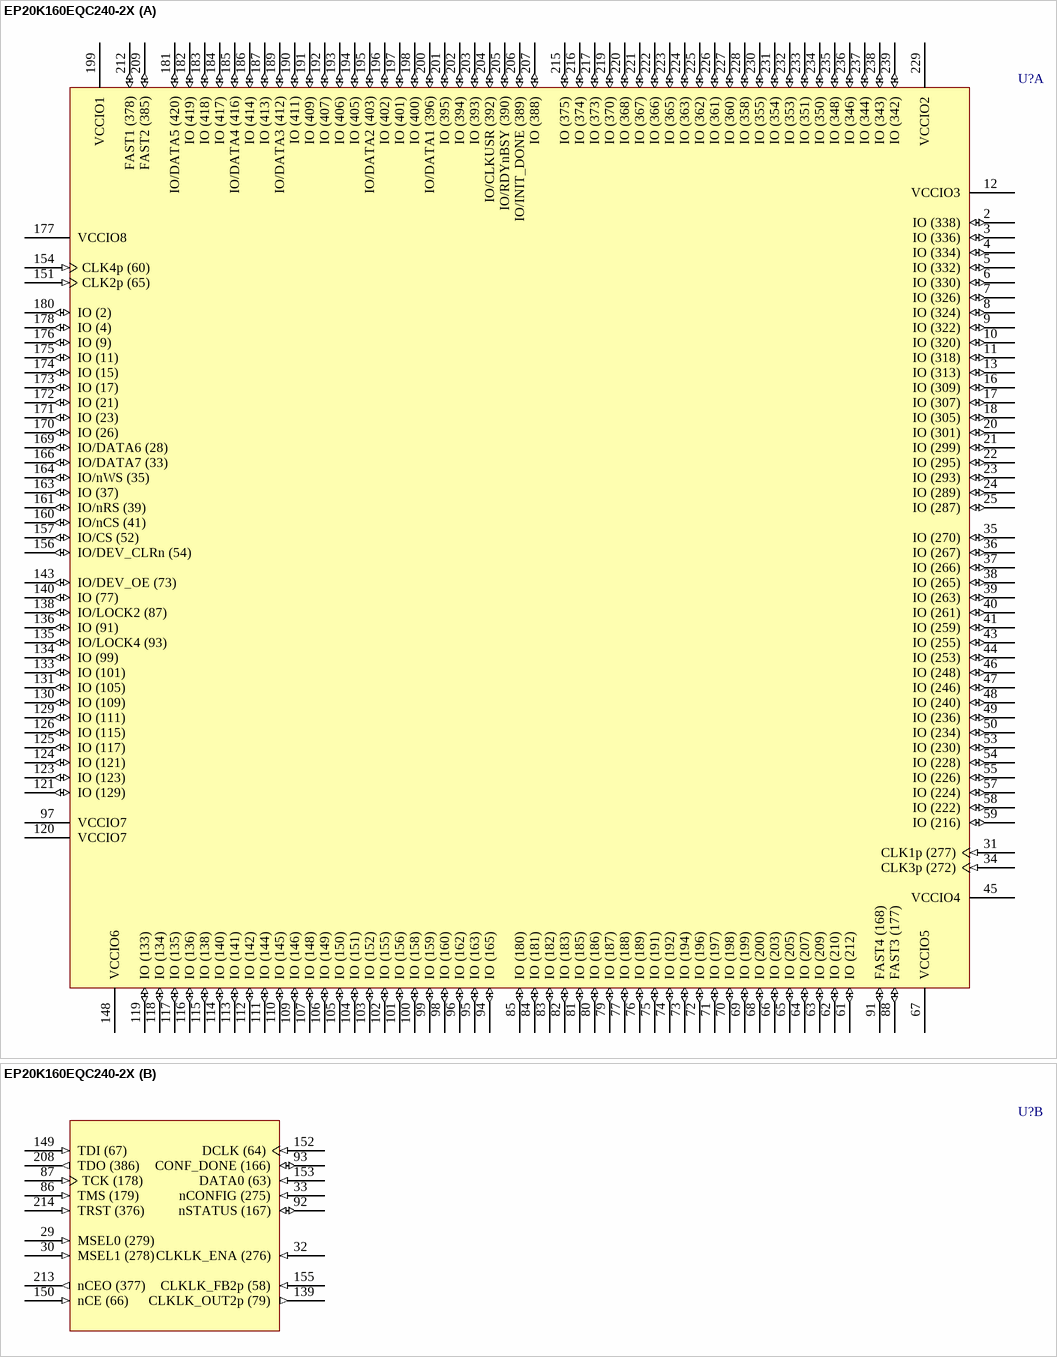
[diagram p159: symbol EP20K160EQC240-2X]

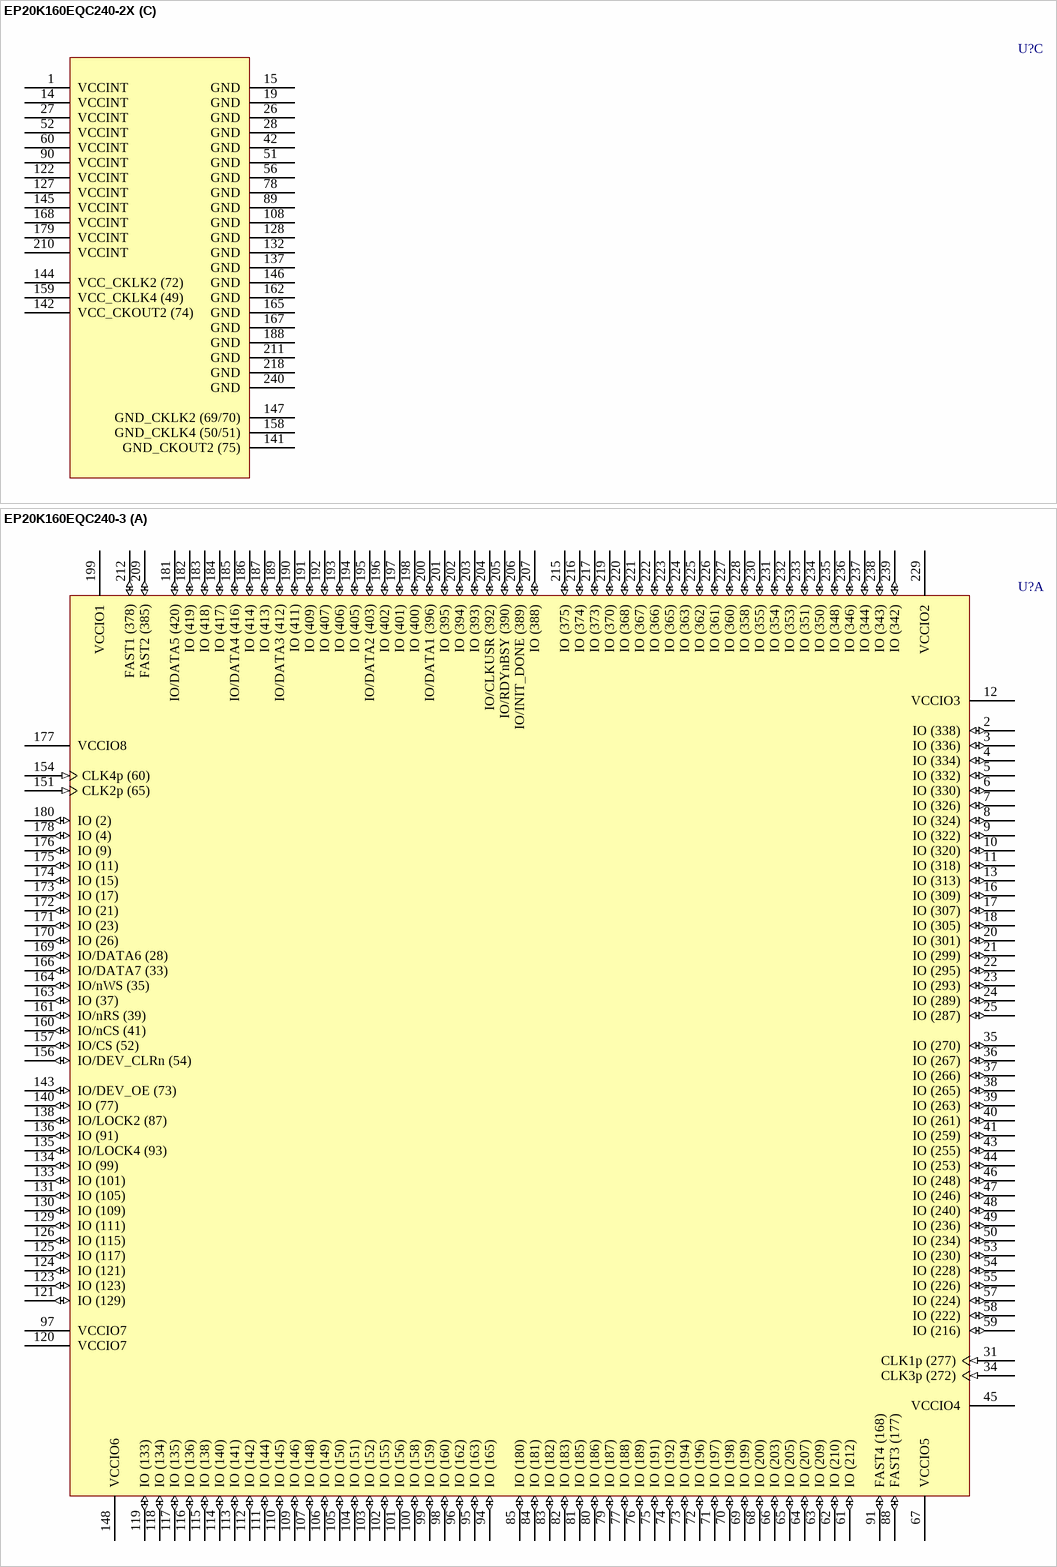
[diagram p160: symbols EP20K160EQC240-2X to EP20K160EQC240-3]

## EP20K160EQC240-2X
designator U?
APEX 20K160E PLD with PLLs and LVDS, 240-Pin PQFP, Commercial Grade, Speed Grade 2; Published: 17-Jul-2002; LatestRevisionDate: 13-Apr-2006; LatestRevisionNote: IPC-7351 Footprint Added.; DatasheetVersion: Mar-2004; PackageVersion: ver15.4, Dec-2008; PackageReference: PQFP240; Publisher: Altium Limited; PackageDescription: 240-Pin Plastic Quad Flat Pack (PQFP240) - Wire Bond; Code_JEDEC: MS-029-GA; ComponentLink1Description: Manufacturer Link; ComponentLink1URL: http://www.altera.com/products/devices/apex/apx-index.html; ComponentLink2Description: Datasheet; ComponentLink2URL: http://www.altera.com/literature/ds/apex.pdf
footprint PQFP240_N (Shrink QFP, 240-Leads, Body 32x32mm, Pitch 0.5mm, IPC Medium Density)
footprint PQFP240_L (Shrink QFP, 240-Leads, Body 32x32mm, Pitch 0.5mm, IPC High Density)
footprint PQFP240_M (Shrink QFP, 240-Leads, Body 32x32mm, Pitch 0.5mm, IPC Low Density)
3D model EP20K160E-PQFP240 (240-Pin Plastic Quad Flat Pack (PQFP240) - Wire Bond)
part A pins: 2 IO (338) (io), 3 IO (336) (io), 4 IO (334) (io), 5 IO (332) (io), 6 IO (330) (io), 7 IO (326) (io), 8 IO (324) (io), 9 IO (322) (io), 10 IO (320) (io), 11 IO (318) (io), 12 VCCIO3 (power), 13 IO (313) (io), 16 IO (309) (io), 17 IO (307) (io), 18 IO (305) (io), 20 IO (301) (io), 21 IO (299) (io), 22 IO (295) (io), 23 IO (293) (io), 24 IO (289) (io), 25 IO (287) (io), 31 CLK1p (277) (in), 34 CLK3p (272) (in), 35 IO (270) (io), 36 IO (267) (io), 37 IO (266) (io), 38 IO (265) (io), 39 IO (263) (io), 40 IO (261) (io), 41 IO (259) (io), 43 IO (255) (io), 44 IO (253) (io), 45 VCCIO4 (power), 46 IO (248) (io), 47 IO (246) (io), 48 IO (240) (io), 49 IO (236) (io), 50 IO (234) (io), 53 IO (230) (io), 54 IO (228) (io), 55 IO (226) (io), 57 IO (224) (io), 58 IO (222) (io), 59 IO (216) (io), 61 IO (212) (io), 62 IO (210) (io), 63 IO (209) (io), 64 IO (207) (io), 65 IO (205) (io), 66 IO (203) (io), 67 VCCIO5 (power), 68 IO (200) (io), 69 IO (199) (io), 70 IO (198) (io), 71 IO (197) (io), 72 IO (196) (io), 73 IO (194) (io), 74 IO (192) (io), 75 IO (191) (io), 76 IO (189) (io), 77 IO (188) (io), 79 IO (187) (io), 80 IO (186) (io), 81 IO (185) (io), 82 IO (183) (io), 83 IO (182) (io), 84 IO (181) (io), 85 IO (180) (io), 88 FAST3 (177) (io), 91 FAST4 (168) (io), 94 IO (165) (io), 95 IO (163) (io), 96 IO (162) (io), 97 VCCIO7 (power), 98 IO (160) (io), 99 IO (159) (io), 100 IO (158) (io), 101 IO (156) (io), 102 IO (155) (io), 103 IO (152) (io), 104 IO (151) (io), 105 IO (150) (io), 106 IO (149) (io), 107 IO (148) (io), 109 IO (146) (io), 110 IO (145) (io), 111 IO (144) (io), 112 IO (142) (io), 113 IO (141) (io), 114 IO (140) (io), 115 IO (138) (io), 116 IO (136) (io), 117 IO (135) (io), 118 IO (134) (io), 119 IO (133) (io), 120 VCCIO7 (power), 121 IO (129) (io), 123 IO (123) (io), 124 IO (121) (io), 125 IO (117) (io), 126 IO (115) (io), 129 IO (111) (io), 130 IO (109) (io), 131 IO (105) (io), 133 IO (101) (io), 134 IO (99) (io), 135 IO/LOCK4 (93) (io), 136 IO (91) (io), 138 IO/LOCK2 (87) (io), 140 IO (77) (io), 143 IO/DEV_OE (73) (io), 148 VCCIO6 (power), 151 CLK2p (65) (in), 154 CLK4p (60) (in), 156 IO/DEV_CLRn (54) (io), 157 IO/CS (52) (io), 160 IO/nCS (41) (io), 161 IO/nRS (39) (io), 163 IO (37) (io), 164 IO/nWS (35) (io), 166 IO/DATA7 (33) (io), 169 IO/DATA6 (28) (io), 170 IO (26) (io), 171 IO (23) (io), 172 IO (21) (io), 173 IO (17) (io), 174 IO (15) (io), 175 IO (11) (io), 176 IO (9) (io), 177 VCCIO8 (power), 178 IO (4) (io), 180 IO (2) (io), 181 IO/DATA5 (420) (io), 182 IO (419) (io), 183 IO (418) (io), 184 IO (417) (io), 185 IO/DATA4 (416) (io), 186 IO (414) (io), 187 IO (413) (io), 189 IO/DATA3 (412) (io), 190 IO (411) (io), 191 IO (409) (io), 192 IO (407) (io), 193 IO (406) (io), 194 IO (405) (io), 195 IO/DATA2 (403) (io), 196 IO (402) (io), 197 IO (401) (io), 198 IO (400) (io), 199 VCCIO1 (power), 200 IO/DATA1 (396) (io), 201 IO (395) (io), 202 IO (394) (io), 203 IO (393) (io), 204 IO/CLKUSR (392) (io), 205 IO/RDYnBSY (390) (io), 206 IO/INIT_DONE (389) (io), 207 IO (388) (io), 209 FAST2 (385) (io), 212 FAST1 (378) (io), 215 IO (375) (io), 216 IO (374) (io), 217 IO (373) (io), 219 IO (370) (io), 220 IO (368) (io), 221 IO (367) (io), 222 IO (366) (io), 223 IO (365) (io), 224 IO (363) (io), 225 IO (362) (io), 226 IO (361) (io), 227 IO (360) (io), 228 IO (358) (io), 229 VCCIO2 (power), 230 IO (355) (io), 231 IO (354) (io), 232 IO (353) (io), 233 IO (351) (io), 234 IO (350) (io), 235 IO (348) (io), 236 IO (346) (io), 237 IO (344) (io), 238 IO (343) (io), 239 IO (342) (io)
part B pins: 29 MSEL0 (279) (in), 30 MSEL1 (278) (in), 32 CLKLK_ENA (276) (in), 33 nCONFIG (275) (in), 86 TMS (179) (in), 87 TCK (178) (in), 92 nSTATUS (167) (io), 93 CONF_DONE (166) (io), 139 CLKLK_OUT2p (79) (out), 149 TDI (67) (in), 150 nCE (66) (in), 152 DCLK (64) (in), 153 DATA0 (63) (in), 155 CLKLK_FB2p (58) (in), 208 TDO (386) (out), 213 nCEO (377) (out), 214 TRST (376) (in)
part C pins: 1 VCCINT (power), 14 VCCINT (power), 15 GND (power), 19 GND (power), 26 GND (power), 27 VCCINT (power), 28 GND (power), 42 GND (power), 51 GND (power), 52 VCCINT (power), 56 GND (power), 60 VCCINT (power), 78 GND (power), 89 GND (power), 90 VCCINT (power), 108 GND (power), 122 VCCINT (power), 127 VCCINT (power), 128 GND (power), 132 GND (power), 137 GND (power), 141 GND_CKOUT2 (75) (power), 142 VCC_CKOUT2 (74) (power), 144 VCC_CKLK2 (72) (power), 145 VCCINT (power), 146 GND (power), 147 GND_CKLK2 (69/70) (power), 158 GND_CKLK4 (50/51) (power), 159 VCC_CKLK4 (49) (power), 162 GND (power), 165 GND (power), 167 GND (power), 168 VCCINT (power), 179 VCCINT (power), 188 GND (power), 210 VCCINT (power), 211 GND (power), 218 GND (power), 240 GND (power)

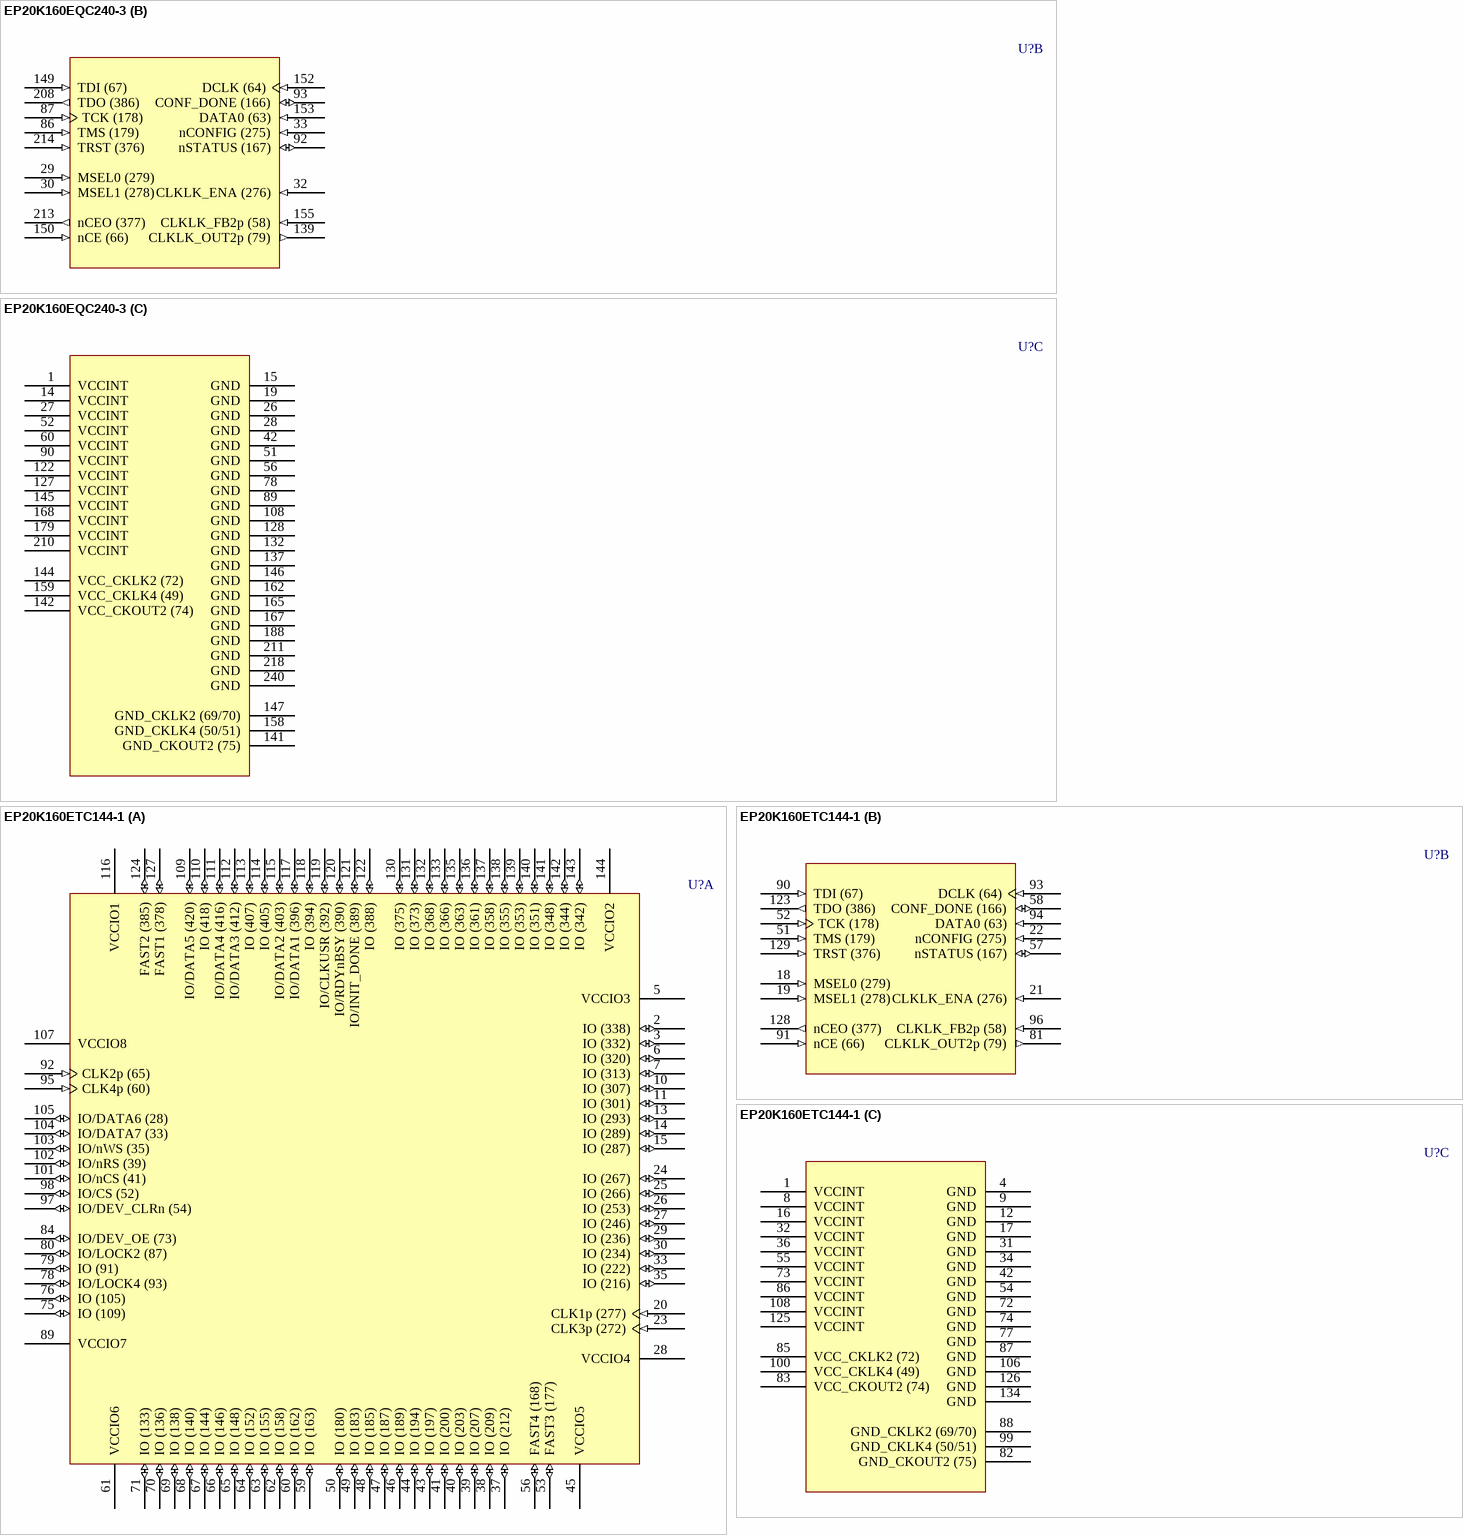
[diagram p161: symbols EP20K160EQC240-3 to EP20K160ETC144-1]

## EP20K160EQC240-3
designator U?
APEX 20K160E PLD, 240-Pin PQFP, Commercial Grade, Speed Grade 3; Published: 17-Jul-2002; LatestRevisionDate: 13-Apr-2006; LatestRevisionNote: IPC-7351 Footprint Added.; DatasheetVersion: Mar-2004; PackageVersion: ver15.4, Dec-2008; PackageReference: PQFP240; Publisher: Altium Limited; PackageDescription: 240-Pin Plastic Quad Flat Pack (PQFP240) - Wire Bond; Code_JEDEC: MS-029-GA; ComponentLink1Description: Manufacturer Link; ComponentLink1URL: http://www.altera.com/products/devices/apex/apx-index.html; ComponentLink2Description: Datasheet; ComponentLink2URL: http://www.altera.com/literature/ds/apex.pdf
footprint PQFP240_N (Shrink QFP, 240-Leads, Body 32x32mm, Pitch 0.5mm, IPC Medium Density)
footprint PQFP240_L (Shrink QFP, 240-Leads, Body 32x32mm, Pitch 0.5mm, IPC High Density)
footprint PQFP240_M (Shrink QFP, 240-Leads, Body 32x32mm, Pitch 0.5mm, IPC Low Density)
3D model EP20K160E-PQFP240 (240-Pin Plastic Quad Flat Pack (PQFP240) - Wire Bond)
part A pins: 2 IO (338) (io), 3 IO (336) (io), 4 IO (334) (io), 5 IO (332) (io), 6 IO (330) (io), 7 IO (326) (io), 8 IO (324) (io), 9 IO (322) (io), 10 IO (320) (io), 11 IO (318) (io), 12 VCCIO3 (power), 13 IO (313) (io), 16 IO (309) (io), 17 IO (307) (io), 18 IO (305) (io), 20 IO (301) (io), 21 IO (299) (io), 22 IO (295) (io), 23 IO (293) (io), 24 IO (289) (io), 25 IO (287) (io), 31 CLK1p (277) (in), 34 CLK3p (272) (in), 35 IO (270) (io), 36 IO (267) (io), 37 IO (266) (io), 38 IO (265) (io), 39 IO (263) (io), 40 IO (261) (io), 41 IO (259) (io), 43 IO (255) (io), 44 IO (253) (io), 45 VCCIO4 (power), 46 IO (248) (io), 47 IO (246) (io), 48 IO (240) (io), 49 IO (236) (io), 50 IO (234) (io), 53 IO (230) (io), 54 IO (228) (io), 55 IO (226) (io), 57 IO (224) (io), 58 IO (222) (io), 59 IO (216) (io), 61 IO (212) (io), 62 IO (210) (io), 63 IO (209) (io), 64 IO (207) (io), 65 IO (205) (io), 66 IO (203) (io), 67 VCCIO5 (power), 68 IO (200) (io), 69 IO (199) (io), 70 IO (198) (io), 71 IO (197) (io), 72 IO (196) (io), 73 IO (194) (io), 74 IO (192) (io), 75 IO (191) (io), 76 IO (189) (io), 77 IO (188) (io), 79 IO (187) (io), 80 IO (186) (io), 81 IO (185) (io), 82 IO (183) (io), 83 IO (182) (io), 84 IO (181) (io), 85 IO (180) (io), 88 FAST3 (177) (io), 91 FAST4 (168) (io), 94 IO (165) (io), 95 IO (163) (io), 96 IO (162) (io), 97 VCCIO7 (power), 98 IO (160) (io), 99 IO (159) (io), 100 IO (158) (io), 101 IO (156) (io), 102 IO (155) (io), 103 IO (152) (io), 104 IO (151) (io), 105 IO (150) (io), 106 IO (149) (io), 107 IO (148) (io), 109 IO (146) (io), 110 IO (145) (io), 111 IO (144) (io), 112 IO (142) (io), 113 IO (141) (io), 114 IO (140) (io), 115 IO (138) (io), 116 IO (136) (io), 117 IO (135) (io), 118 IO (134) (io), 119 IO (133) (io), 120 VCCIO7 (power), 121 IO (129) (io), 123 IO (123) (io), 124 IO (121) (io), 125 IO (117) (io), 126 IO (115) (io), 129 IO (111) (io), 130 IO (109) (io), 131 IO (105) (io), 133 IO (101) (io), 134 IO (99) (io), 135 IO/LOCK4 (93) (io), 136 IO (91) (io), 138 IO/LOCK2 (87) (io), 140 IO (77) (io), 143 IO/DEV_OE (73) (io), 148 VCCIO6 (power), 151 CLK2p (65) (in), 154 CLK4p (60) (in), 156 IO/DEV_CLRn (54) (io), 157 IO/CS (52) (io), 160 IO/nCS (41) (io), 161 IO/nRS (39) (io), 163 IO (37) (io), 164 IO/nWS (35) (io), 166 IO/DATA7 (33) (io), 169 IO/DATA6 (28) (io), 170 IO (26) (io), 171 IO (23) (io), 172 IO (21) (io), 173 IO (17) (io), 174 IO (15) (io), 175 IO (11) (io), 176 IO (9) (io), 177 VCCIO8 (power), 178 IO (4) (io), 180 IO (2) (io), 181 IO/DATA5 (420) (io), 182 IO (419) (io), 183 IO (418) (io), 184 IO (417) (io), 185 IO/DATA4 (416) (io), 186 IO (414) (io), 187 IO (413) (io), 189 IO/DATA3 (412) (io), 190 IO (411) (io), 191 IO (409) (io), 192 IO (407) (io), 193 IO (406) (io), 194 IO (405) (io), 195 IO/DATA2 (403) (io), 196 IO (402) (io), 197 IO (401) (io), 198 IO (400) (io), 199 VCCIO1 (power), 200 IO/DATA1 (396) (io), 201 IO (395) (io), 202 IO (394) (io), 203 IO (393) (io), 204 IO/CLKUSR (392) (io), 205 IO/RDYnBSY (390) (io), 206 IO/INIT_DONE (389) (io), 207 IO (388) (io), 209 FAST2 (385) (io), 212 FAST1 (378) (io), 215 IO (375) (io), 216 IO (374) (io), 217 IO (373) (io), 219 IO (370) (io), 220 IO (368) (io), 221 IO (367) (io), 222 IO (366) (io), 223 IO (365) (io), 224 IO (363) (io), 225 IO (362) (io), 226 IO (361) (io), 227 IO (360) (io), 228 IO (358) (io), 229 VCCIO2 (power), 230 IO (355) (io), 231 IO (354) (io), 232 IO (353) (io), 233 IO (351) (io), 234 IO (350) (io), 235 IO (348) (io), 236 IO (346) (io), 237 IO (344) (io), 238 IO (343) (io), 239 IO (342) (io)
part B pins: 29 MSEL0 (279) (in), 30 MSEL1 (278) (in), 32 CLKLK_ENA (276) (in), 33 nCONFIG (275) (in), 86 TMS (179) (in), 87 TCK (178) (in), 92 nSTATUS (167) (io), 93 CONF_DONE (166) (io), 139 CLKLK_OUT2p (79) (out), 149 TDI (67) (in), 150 nCE (66) (in), 152 DCLK (64) (in), 153 DATA0 (63) (in), 155 CLKLK_FB2p (58) (in), 208 TDO (386) (out), 213 nCEO (377) (out), 214 TRST (376) (in)
part C pins: 1 VCCINT (power), 14 VCCINT (power), 15 GND (power), 19 GND (power), 26 GND (power), 27 VCCINT (power), 28 GND (power), 42 GND (power), 51 GND (power), 52 VCCINT (power), 56 GND (power), 60 VCCINT (power), 78 GND (power), 89 GND (power), 90 VCCINT (power), 108 GND (power), 122 VCCINT (power), 127 VCCINT (power), 128 GND (power), 132 GND (power), 137 GND (power), 141 GND_CKOUT2 (75) (power), 142 VCC_CKOUT2 (74) (power), 144 VCC_CKLK2 (72) (power), 145 VCCINT (power), 146 GND (power), 147 GND_CKLK2 (69/70) (power), 158 GND_CKLK4 (50/51) (power), 159 VCC_CKLK4 (49) (power), 162 GND (power), 165 GND (power), 167 GND (power), 168 VCCINT (power), 179 VCCINT (power), 188 GND (power), 210 VCCINT (power), 211 GND (power), 218 GND (power), 240 GND (power)

## EP20K160ETC144-1
designator U?
APEX 20K160E PLD, 144-Pin TQFP, Commercial Grade, Speed Grade 1; Published: 17-Jul-2002; LatestRevisionDate: 13-Apr-2006; LatestRevisionNote: IPC-7351 Footprint Added.; DatasheetVersion: Mar-2004; PackageVersion: ver15.4, Dec-2008; PackageReference: TQFP144; Publisher: Altium Limited; PackageDescription: 144-Pin Plastic Thin Quad Flat Pack (TQFP144) - Wire Bond; Supplier 1: Digi-Key; Supplier Part Number 1: EP20K160ETC144-1-ND; Code_JEDEC: MS-026-BFB; ComponentLink1Description: Manufacturer Link; ComponentLink1URL: http://www.altera.com/products/devices/apex/apx-index.html; ComponentLink2Description: Datasheet; ComponentLink2URL: http://www.altera.com/literature/ds/apex.pdf
footprint TQFP144_N (Thin QFP, 144-Leads, Body 20x20mm, Pitch 0.5mm, IPC Medium Density)
footprint TQFP144_L (Thin QFP, 144-Leads, Body 20x20mm, Pitch 0.5mm, IPC High Density)
footprint TQFP144_M (Thin QFP, 144-Leads, Body 20x20mm, Pitch 0.5mm, IPC Low Density)
3D model EP20K160E-TQFP144 (144-Pin Plastic Thin Quad Flat Pack (TQFP144) - Wire Bond)
part A pins: 2 IO (338) (io), 3 IO (332) (io), 5 VCCIO3 (power), 6 IO (320) (io), 7 IO (313) (io), 10 IO (307) (io), 11 IO (301) (io), 13 IO (293) (io), 14 IO (289) (io), 15 IO (287) (io), 20 CLK1p (277) (in), 23 CLK3p (272) (in), 24 IO (267) (io), 25 IO (266) (io), 26 IO (253) (io), 27 IO (246) (io), 28 VCCIO4 (power), 29 IO (236) (io), 30 IO (234) (io), 33 IO (222) (io), 35 IO (216) (io), 37 IO (212) (io), 38 IO (209) (io), 39 IO (207) (io), 40 IO (203) (io), 41 IO (200) (io), 43 IO (197) (io), 44 IO (194) (io), 45 VCCIO5 (power), 46 IO (189) (io), 47 IO (187) (io), 48 IO (185) (io), 49 IO (183) (io), 50 IO (180) (io), 53 FAST3 (177) (io), 56 FAST4 (168) (io), 59 IO (163) (io), 60 IO (162) (io), 61 VCCIO6 (power), 62 IO (158) (io), 63 IO (155) (io), 64 IO (152) (io), 65 IO (148) (io), 66 IO (146) (io), 67 IO (144) (io), 68 IO (140) (io), 69 IO (138) (io), 70 IO (136) (io), 71 IO (133) (io), 75 IO (109) (io), 76 IO (105) (io), 78 IO/LOCK4 (93) (io), 79 IO (91) (io), 80 IO/LOCK2 (87) (io), 84 IO/DEV_OE (73) (io), 89 VCCIO7 (power), 92 CLK2p (65) (in), 95 CLK4p (60) (in), 97 IO/DEV_CLRn (54) (io), 98 IO/CS (52) (io), 101 IO/nCS (41) (io), 102 IO/nRS (39) (io), 103 IO/nWS (35) (io), 104 IO/DATA7 (33) (io), 105 IO/DATA6 (28) (io), 107 VCCIO8 (power), 109 IO/DATA5 (420) (io), 110 IO (418) (io), 111 IO/DATA4 (416) (io), 112 IO/DATA3 (412) (io), 113 IO (407) (io), 114 IO (405) (io), 115 IO/DATA2 (403) (io), 116 VCCIO1 (power), 117 IO/DATA1 (396) (io), 118 IO (394) (io), 119 IO/CLKUSR (392) (io), 120 IO/RDYnBSY (390) (io), 121 IO/INIT_DONE (389) (io), 122 IO (388) (io), 124 FAST2 (385) (io), 127 FAST1 (378) (io), 130 IO (375) (io), 131 IO (373) (io), 132 IO (368) (io), 133 IO (366) (io), 135 IO (363) (io), 136 IO (361) (io), 137 IO (358) (io), 138 IO (355) (io), 139 IO (353) (io), 140 IO (351) (io), 141 IO (348) (io), 142 IO (344) (io), 143 IO (342) (io), 144 VCCIO2 (power)
part B pins: 18 MSEL0 (279) (in), 19 MSEL1 (278) (in), 21 CLKLK_ENA (276) (in), 22 nCONFIG (275) (in), 51 TMS (179) (in), 52 TCK (178) (in), 57 nSTATUS (167) (io), 58 CONF_DONE (166) (io), 81 CLKLK_OUT2p (79) (out), 90 TDI (67) (in), 91 nCE (66) (in), 93 DCLK (64) (in), 94 DATA0 (63) (in), 96 CLKLK_FB2p (58) (in), 123 TDO (386) (out), 128 nCEO (377) (out), 129 TRST (376) (in)
part C pins: 1 VCCINT (power), 4 GND (power), 8 VCCINT (power), 9 GND (power), 12 GND (power), 16 VCCINT (power), 17 GND (power), 31 GND (power), 32 VCCINT (power), 34 GND (power), 36 VCCINT (power), 42 GND (power), 54 GND (power), 55 VCCINT (power), 72 GND (power), 73 VCCINT (power), 74 GND (power), 77 GND (power), 82 GND_CKOUT2 (75) (power), 83 VCC_CKOUT2 (74) (power), 85 VCC_CKLK2 (72) (power), 86 VCCINT (power), 87 GND (power), 88 GND_CKLK2 (69/70) (power), 99 GND_CKLK4 (50/51) (power), 100 VCC_CKLK4 (49) (power), 106 GND (power), 108 VCCINT (power), 125 VCCINT (power), 126 GND (power), 134 GND (power)

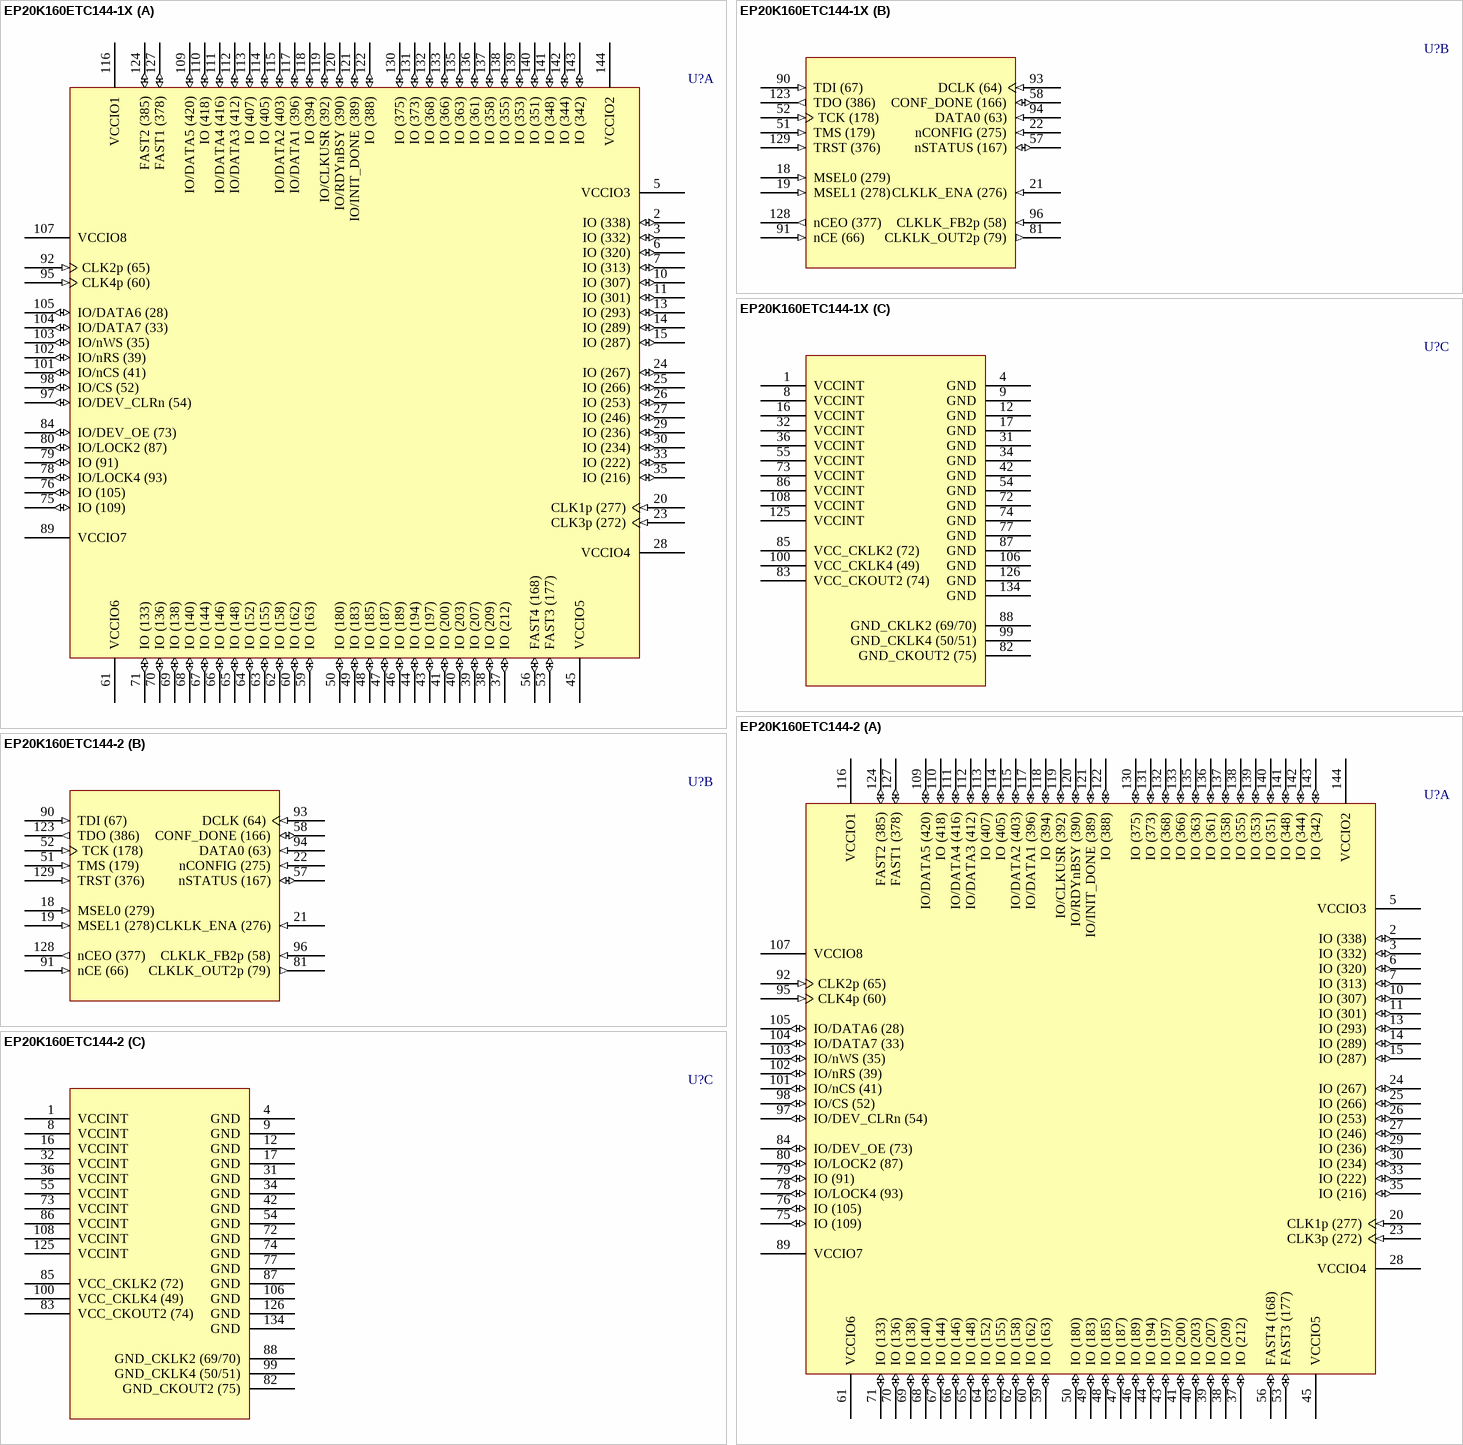
[diagram p162: symbols EP20K160ETC144-1X to EP20K160ETC144-2]